# Altium integrated library Xilinx Virtex-E.IntLib: 288 symbols (part 38 of 73)
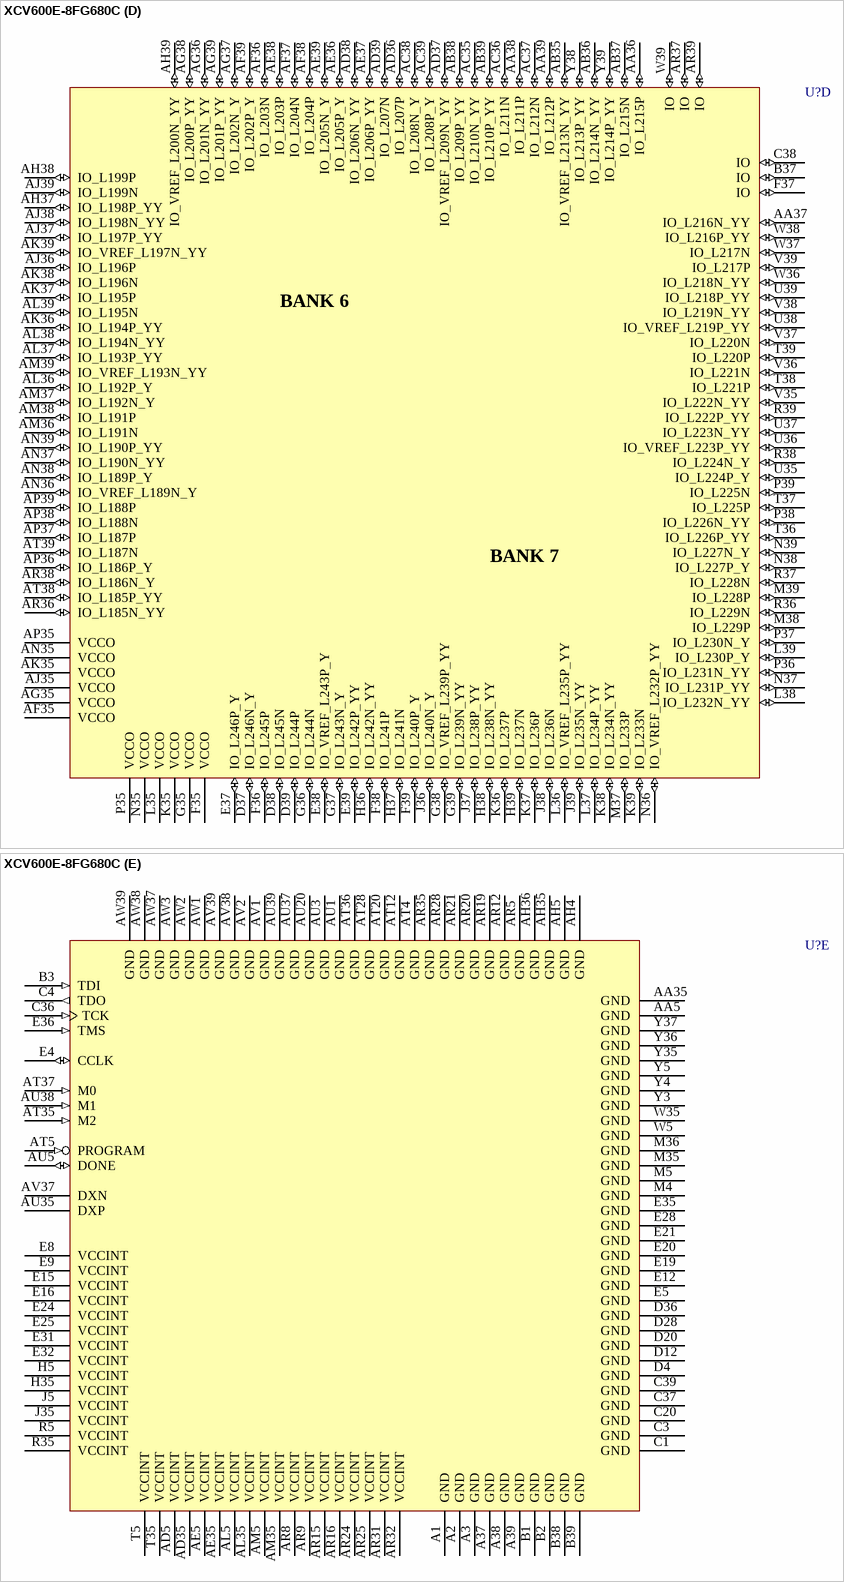
[diagram p427: symbol XCV600E-8FG680C]

## XCV600E-8FG680C
designator U?
Virtex-E 1.8V FPGA, 680-Ball FBGA, Commercial Grade; PackageDocument: ver1.1, Apr-2001; Note: Solder pads are defined by the copper, i.e. non-soldermask defined (NSMD); Published: 19-Sep-2001; LatestRevisionDate: 17-Jul-2002; LatestRevisionNote: Re-released for DXP Platform.; DatasheetDocument: Mar-2003; PackageReference: FG680; Publisher: Altium Limited
footprint FG680 (680-Ball Fine Pitch Ball Grid Array (FG680))
3D model XCV600E-FG680 (680-Ball Fine Pitch Ball Grid Array (FG680))
signal-integrity model XCV600E_FG680 (Virtex-E)
part A pins: A4 IO_L59P_Y (io), A5 IO_L57P_YY (io), A6 IO_L55P_Y (io), A7 IO_L53P_YY (io), A8 IO_L52N_YY (io), A9 IO_L50N_Y (io), A10 IO_L48N_YY (io), A11 IO_L46N_Y (io), A12 IO_L43P_Y (io), A13 IO_L41P_YY (io), A14 IO_L40N_YY (io), A15 IO_L38N_Y (io), A16 IO_L35P_Y (io), A17 IO_L33P_YY (io), A18 IO_L31P_Y (io), A19 IO_LVDS_DLL_L29P (io), A20 GCK3 (in), A21 IO_L27P_YY (io), A22 IO_L25P_Y (io), A23 IO_L23P_YY (io), A24 IO_L22N_YY (io), A25 IO_L21N_Y (io), A26 IO_L19N_YY (io), A27 IO_L16N_Y (io), A28 IO_L14P_YY (io), A29 IO_L13N_Y (io), A30 IO_L12N_Y (io), A31 IO_L10N_YY (io), A32 IO_L9N_Y (io), A33 IO_VREF_L7N_YY (io), A34 IO_L4P (io), A35 IO_L2P_YY (io), A36 IO_L0P_Y (io), B4 IO_WRITE_L60N_YY (io), B5 IO_L58P_Y (io), B6 IO_VREF_L56P_YY (io), B7 IO_L54P_Y (io), B8 IO_VREF_L52P_YY (io), B9 IO_L51N_Y (io), B10 IO_L49N_YY (io), B11 IO_L47N_Y (io), B12 IO_L45N_YY (io), B13 IO_L42P_Y (io), B14 IO_L40P_YY (io), B15 IO_L39N_Y (io), B16 IO_L37N_YY (io), B17 IO_L34P_Y (io), B18 IO_VREF_L32P_YY (io), B19 IO_L30P_Y (io), B20 IO_L28P_Y (io), B21 IO_L26P_YY (io), B22 IO_L24P_Y (io), B23 IO_L22P_YY (io), B24 IO_L24N_Y (io), B25 IO_L20N_Y (io), B26 IO_L17P_Y (io), B27 IO_L15P_Y (io), B28 IO_VREF_L14N_YY (io), B29 IO_L13P_Y (io), B30 IO_VREF_L11N_YY (io), B31 IO_L8P_Y (io), B32 IO_L8N_Y (io), B33 IO_L5P_Y (io), B34 IO_L3P_YY (io), B35 IO_L1P_Y (io), B36 IO (io), C5 IO (io), C6 IO_L58N_Y (io), C7 IO_L56N_YY (io), C8 IO_L54N_Y (io), C9 IO_L51P_Y (io), C10 IO_L49P_YY (io), C11 IO_L47P_Y (io), C12 IO_L46P_Y (io), C13 IO_L44P_YY (io), C14 IO_L43N_Y (io), C15 IO_L41N_YY (io), C16 IO_L38P_Y (io), C17 IO_L36N_YY (io), C18 IO_L33N_YY (io), C19 IO_L31N_Y (io), C21 IO_L30N_Y (io), C22 IO_LVDS_DLL_L29N (io), C23 IO_VREF_L27N_YY (io), C24 IO_VREF_L23N_YY (io), C25 IO_L20P_Y (io), C26 IO_L18P_YY (io), C27 IO_L17N_YY (io), C28 IO_L15N_YY (io), C29 IO_L12P_Y (io), C30 IO_L10P_YY (io), C31 IO_L7P_YY (io), C32 IO_L6N_YY (io), C33 IO_L4N (io), C34 IO_L2N_YY (io), C35 IO_L0N_Y (io), D5 IO_CS_L60P_YY (io), D6 IO_L59N_Y (io), D7 IO_L57N_YY (io), D8 IO_L55N_Y (io), D9 IO_L53N_YY (io), D10 IO_L50P_Y (io), D11 IO_VREF_L48P_YY (io), D13 IO_VREF_L45P_YY (io), D14 IO_L44N_YY (io), D15 IO_L42N_Y (io), D16 IO_L39P_Y (io), D17 IO_VREF_L36P_YY (io), D18 IO_L34N_Y (io), D19 IO_L32N_YY (io), D21 GCK2 (in), D22 IO (io), D23 IO_L26N_YY (io), D24 IO_L21P_Y (io), D25 IO_L19P_YY (io), D26 IO_L18N_YY (io), D27 IO_L16N_Y (io), D29 IO_L11P_YY (io), D30 IO_L9P_Y (io), D31 IO_L6P_YY (io), D32 IO_L5N_Y (io), D33 IO_VREF_L3N_YY (io), D34 IO_L1N_Y (io), D35 IO (io), E6 VCCO (power), E7 VCCO (power), E10 VCCO (power), E11 VCCO (power), E13 VCCO (power), E14 VCCO (power), E17 IO_L37P_YY (io), E18 IO_L35N_Y (io), E22 IO_L28N_Y (io), E23 IO_L25N_Y (io), E26 VCCO (power), E27 VCCO (power), E29 VCCO (power), E30 VCCO (power), E33 VCCO (power), E34 VCCO (power)
part B pins: AA1 IO_L96N (io), AA2 IO_L97N (io), AA3 IO_L90P_YY (io), AA4 IO_L91P (io), AB1 IO_L98N_YY (io), AB2 IO_L92P_YY (io), AB3 IO (io), AB4 IO_L93P (io), AB5 IO_L94P_YY (io), AC1 IO_VREF_L99N_YY (io), AC2 IO_L95P_YY (io), AC3 IO_L96P (io), AC4 IO_L97P (io), AC5 IO_L98P_YY (io), AD1 IO_L100P_Y (io), AD2 IO_L101P (io), AD3 IO_D4_L99P_YY (io), AD4 IO_L100N_Y (io), AE1 IO_L102P_YY (io), AE2 IO_L103P_Y (io), AE3 IO_L101N (io), AE4 IO_L102N_YY (io), AF1 IO_L104N (io), AF2 IO_L105N (io), AF3 IO_L103N_Y (io), AF4 IO_L104P (io), AF5 VCCO (power), AG1 IO_L106N_Y (io), AG2 IO_D5_L107N_YY (io), AG3 IO_L105P (io), AG4 IO_L106P_Y (io), AG5 VCCO (power), AH1 IO_D6_L108P_YY (io), AH2 IO_L109P (io), AH3 IO_L107P_YY (io), AJ1 IO_L110P_YY (io), AJ2 IO_VREF_L108N_YY (io), AJ3 IO_L109N (io), AJ4 IO_L110N_YY (io), AJ5 VCCO (power), AK1 IO_L111P_YY (io), AK2 IO_L112P (io), AK3 IO_VREF_L111N_YY (io), AK4 IO_L112N (io), AK5 VCCO (power), AL1 IO_L113P (io), AL2 IO_L113N (io), AL3 IO_L114N_YY (io), AL4 IO_VREF_L115N_YY (io), AM1 IO_L114P_YY (io), AM2 IO_L115P_YY (io), AM3 IO_L116P_Y (io), AM4 IO_L117P (io), AN1 IO_L116N_Y (io), AN2 IO_L118P_YY (io), AN3 IO_L119P_Y (io), AN4 IO_L120P (io), AN5 VCCO (power), AP1 IO_L117N (io), AP2 IO_L118N_YY (io), AP3 IO (io), AP4 IO_L121N (io), AP5 VCCO (power), AR1 IO_VREF_L119N_Y (io), AR2 IO_L121P (io), AR3 IO_L122N_Y (io), AR4 IO_D7_L123P_YY (io), AT1 IO_L120N (io), AT2 IO_L122P_Y (io), AT3 IO (io), AU2 IO_INIT_L123N_YY (io), C2 IO_DIN_D0_L61N_YY (io), D1 IO (io), D2 IO_L63P (io), D3 IO_L62P_Y (io), E1 IO_L65N_Y (io), E2 IO_L64N (io), E3 IO_DOUT_BUSY_L61P_YY (io), F1 IO_L67N (io), F2 IO_L66N_YY (io), F3 IO_L62N_Y (io), F4 IO (io), F5 VCCO (power), G1 IO_VREF_L69P_YY (io), G2 IO_L68N_Y (io), G3 IO_L64P (io), G4 IO_L63N (io), G5 VCCO (power), H1 IO_L71P (io), H2 IO_L70P_YY (io), H3 IO_L66P_YY (io), H4 IO_VREF_L65P_Y (io), J1 IO_VREF_L73P_YY (io), J2 IO_L72P (io), J3 IO_L68P_Y (io), J4 IO_L67P (io), K1 IO_L75P (io), K2 IO_L74P_YY (io), K3 IO_L70N_YY (io), K4 IO_L69N_YY (io), K5 VCCO (power), L1 IO_L77N_YY (io), L2 IO_VREF_L76P_YY (io), L3 IO_L72N (io), L4 IO_L71N (io), L5 VCCO (power), M1 IO_L79N (io), M2 IO_L78N_Y (io), M3 IO_L73N_YY (io), N1 IO_L81P_Y (io), N2 IO_L80N (io), N3 IO_L75N (io), N4 IO_L74N_YY (io), N5 VCCO (power), P1 IO_L83P (io), P2 IO_L82P_YY (io), P3 IO_D2_L77P_YY (io), P4 IO_D1_L76N_YY (io), P5 VCCO (power), R1 IO_D3_L85N_YY (io), R2 IO_L84P_Y (io), R3 IO_L79P (io), R4 IO_L78P_Y (io), T1 IO_L87N (io), T2 IO_L86N_YY (io), T3 IO_L81N_Y (io), T4 IO_L80P (io), U1 IO_L89N_YY (io), U2 IO_L88N (io), U3 IO_L84N_Y (io), U4 IO_L83N (io), U5 IO_L82N_YY (io), V1 IO_L91N (io), V2 IO_L90N_YY (io), V3 IO_L87P (io), V4 IO_L86P_YY (io), V5 IO_VREF_L85P_YY (io), W1 IO_L93N (io), W2 IO_L92N_YY (io), W3 IO_VREF_L89P_YY (io), W4 IO_L88P (io), Y1 IO_VREF_L95N_YY (io), Y2 IO_L94N_YY (io)
part C pins: AR6 VCCO (power), AR7 VCCO (power), AR10 VCCO (power), AR11 VCCO (power), AR13 VCCO (power), AR14 VCCO (power), AR17 IO_L146N_Y (io), AR18 IO_L149P_Y (io), AR22 IO_L156N_Y (io), AR23 IO_L160P_Y (io), AR26 VCCO (power), AR27 VCCO (power), AR29 VCCO (power), AR30 VCCO (power), AR33 VCCO (power), AR34 VCCO (power), AT6 IO_L125P_Y (io), AT7 IO_L127P_YY (io), AT8 IO_L129P_Y (io), AT9 IO_L131P_YY (io), AT10 IO_L133N_Y (io), AT11 IO_L135N_YY (io), AT13 IO_L138N_Y (io), AT14 IO_L140P_YY (io), AT15 IO_L142P_Y (io), AT16 IO_L144N_YY (io), AT17 IO_L147N_YY (io), AT18 IO_L150P_Y (io), AT19 IO_VREF_L152P_YY (io), AT21 IO_LVDS_DLL_L155P (io), AT22 IO_LVDS_DLL_L155N (io), AT23 IO_L159P_Y (io), AT24 IO_L163N_Y (io), AT25 IO_L165N_YY (io), AT26 IO_L168P_Y (io), AT27 IO_VREF_L170N_YY (io), AT29 IO_L174N_YY (io), AT30 IO_L176N_Y (io), AT31 IO_L178P_YY (io), AT32 IO_L181P_YY (io), AT33 IO_L183P_Y (io), AT34 IO (io), AU4 IO_L124P_YY (io), AU6 IO_L126P_Y (io), AU7 IO_VREF_L128P_YY (io), AU8 IO_L130P_Y (io), AU9 IO_L132N_YY (io), AU10 IO_L134N_Y (io), AU11 IO_L136N_YY (io), AU12 IO_L137N_Y (io), AU13 IO_L139N_YY (io), AU14 IO_L141P_Y (io), AU15 IO_L143P_YY (io), AU16 IO_L145N_Y (io), AU17 IO_VREF_L148P_YY (io), AU18 IO_L151P_YY (io), AU19 IO_L153P_Y (io), AU21 IO_L154P (io), AU22 GCK1 (in), AU23 IO_L158P_YY (io), AU24 IO_L162N_YY (io), AU25 IO_L164N_Y (io), AU26 IO_L167P_Y (io), AU27 IO_L169P_YY (io), AU28 IO_L171N_Y (io), AU29 IO_VREF_L173N_YY (io), AU30 IO_L175N_Y (io), AU31 IO_VREF_L177N_YY (io), AU32 IO_L180P_Y (io), AU33 IO_L182P_YY (io), AU34 IO_L184P_Y (io), AU36 IO_L184N_Y (io), AV3 IO (io), AV4 IO_L125N_Y (io), AV5 IO_L124N_YY (io), AV6 IO_L128N_YY (io), AV7 IO_L130N_Y (io), AV8 IO_VREF_L132P_YY (io), AV9 IO_L134P_Y (io), AV10 IO_VREF_L136P_YY (io), AV11 IO_L138P_Y (io), AV12 IO_L140N_YY (io), AV13 IO_L142N_Y (io), AV14 IO_L144P_YY (io), AV15 IO_L146P_Y (io), AV16 IO_L148N_YY (io), AV17 IO_L150N_Y (io), AV18 IO_L152N_YY (io), AV19 IO_L154N (io), AV20 IO_L156P_Y (io), AV21 IO_L158N_Y (io), AV22 IO_L160N_Y (io), AV23 IO_L157P_YY (io), AV24 IO_L161P_YY (io), AV25 IO_L164P_Y (io), AV26 IO_L166P_YY (io), AV27 IO_L167N_Y (io), AV28 IO_L169N_YY (io), AV29 IO_L172N_Y (io), AV30 IO_L172P_Y (io), AV31 IO_L174P_YY (io), AV32 IO_L179P_Y (io), AV33 IO_L177P_YY (io), AV34 IO_L179N_Y (io), AV35 IO_VREF_L181N_YY (io), AV36 IO_L183N_Y (io), AW4 IO_L126N_Y (io), AW5 IO_L127N_YY (io), AW6 IO_L129N_Y (io), AW7 IO_L131N_YY (io), AW8 IO_L133P_Y (io), AW9 IO_L135P_YY (io), AW10 IO_L137P_Y (io), AW11 IO_VREF_L139P_YY (io), AW12 IO_L141N_Y (io), AW13 IO_L143N_YY (io), AW14 IO_L145P_Y (io), AW15 IO_L147P_YY (io), AW16 IO_L149N_Y (io), AW17 IO_L151N_YY (io), AW18 IO_L153N_Y (io), AW19 GCK0 (in), AW20 IO (io), AW21 IO_VREF_L157N_YY (io), AW22 IO_L159N_Y (io), AW23 IO_VREF_L161N_YY (io), AW24 IO_L162P_YY (io), AW25 IO_L163P_Y (io), AW26 IO_L165P_YY (io), AW27 IO_L166N_YY (io), AW28 IO_L168N_Y (io), AW29 IO_L170P_YY (io), AW30 IO_L171P_Y (io), AW31 IO_L173P_YY (io), AW32 IO_L175P_Y (io), AW33 IO_L176P_Y (io), AW34 IO_L178N_YY (io), AW35 IO_L180N_Y (io), AW36 IO_L182N_YY (io)
part D pins: AA36 IO_L215P (io), AA37 IO_L216N_YY (io), AA38 IO_L211P (io), AA39 IO_L212P (io), AB35 IO_VREF_L213N_YY (io), AB36 IO_L214N_YY (io), AB37 IO_L215N (io), AB38 IO_L209P_YY (io), AB39 IO_L210P_YY (io), AC35 IO_L210N_YY (io), AC36 IO_L211N (io), AC37 IO_L212N (io), AC38 IO_L208N_Y (io), AC39 IO_L208P_Y (io), AD36 IO_L207P (io), AD37 IO_VREF_L209N_YY (io), AD38 IO_L206N_YY (io), AD39 IO_L207N (io), AE36 IO_L205P_Y (io), AE37 IO_L206P_YY (io), AE38 IO_L203P (io), AE39 IO_L205N_Y (io), AF35 VCCO (power), AF36 IO_L203N (io), AF37 IO_L204N (io), AF38 IO_L204P (io), AF39 IO_L202P_Y (io), AG35 VCCO (power), AG36 IO_L201N_YY (io), AG37 IO_L202N_Y (io), AG38 IO_L200P_YY (io), AG39 IO_L201P_YY (io), AH37 IO_L198P_YY (io), AH38 IO_L199P (io), AH39 IO_VREF_L200N_YY (io), AJ35 VCCO (power), AJ36 IO_L196P (io), AJ37 IO_L197P_YY (io), AJ38 IO_L198N_YY (io), AJ39 IO_L199N (io), AK35 VCCO (power), AK36 IO_L194P_YY (io), AK37 IO_L195P (io), AK38 IO_L196N (io), AK39 IO_VREF_L197N_YY (io), AL36 IO_L192P_Y (io), AL37 IO_L193P_YY (io), AL38 IO_L194N_YY (io), AL39 IO_L195N (io), AM36 IO_L191N (io), AM37 IO_L192N_Y (io), AM38 IO_L191P (io), AM39 IO_VREF_L193N_YY (io), AN35 VCCO (power), AN36 IO_VREF_L189N_Y (io), AN37 IO_L190N_YY (io), AN38 IO_L189P_Y (io), AN39 IO_L190P_YY (io), AP35 VCCO (power), AP36 IO_L186P_Y (io), AP37 IO_L187P (io), AP38 IO_L188N (io), AP39 IO_L188P (io), AR36 IO_L185N_YY (io), AR37 IO (io), AR38 IO_L186N_Y (io), AR39 IO (io), AT38 IO_L185P_YY (io), AT39 IO_L187N (io), B37 IO (io), C38 IO (io), D37 IO_L246N_Y (io), D38 IO_L245N (io), D39 IO_L244P (io), E37 IO_L246P_Y (io), E38 IO_VREF_L243P_Y (io), E39 IO_L242P_YY (io), F35 VCCO (power), F36 IO_L245P (io), F37 IO (io), F38 IO_L241P (io), F39 IO_L240P_Y (io), G35 VCCO (power), G36 IO_L244N (io), G37 IO_L243N_Y (io), G38 IO_VREF_L239P_YY (io), G39 IO_L239N_YY (io), H36 IO_L242N_YY (io), H37 IO_L241N (io), H38 IO_L238N_YY (io), H39 IO_L237N (io), J36 IO_L240N_Y (io), J37 IO_L238P_YY (io), J38 IO_L236N (io), J39 IO_L235N_YY (io), K35 VCCO (power), K36 IO_L237P (io), K37 IO_L236P (io), K38 IO_L234N_YY (io), K39 IO_L233N (io), L35 VCCO (power), L36 IO_VREF_L235P_YY (io), L37 IO_L234P_YY (io), L38 IO_L232N_YY (io), L39 IO_L230P_Y (io), M37 IO_L233P (io), M38 IO_L229P (io), M39 IO_L228P (io), N35 VCCO (power), N36 IO_VREF_L232P_YY (io), N37 IO_L231P_YY (io), N38 IO_L227P_Y (io), N39 IO_L227N_Y (io), P35 VCCO (power), P36 IO_L231N_YY (io), P37 IO_L230N_Y (io), P38 IO_L226N_YY (io), P39 IO_L225N (io), R36 IO_L229N (io), R37 IO_L228N (io), R38 IO_L224N_Y (io), R39 IO_L222P_YY (io), T36 IO_L226P_YY (io), T37 IO_L225P (io), T38 IO_L221P (io), T39 IO_L220P (io), U35 IO_L224P_Y (io), U36 IO_VREF_L223P_YY (io), U37 IO_L223N_YY (io), U38 IO_VREF_L219P_YY (io), U39 IO_L218P_YY (io), V35 IO_L222N_YY (io), V36 IO_L221N (io), V37 IO_L220N (io), V38 IO_L219N_YY (io), V39 IO_L217P (io), W36 IO_L218N_YY (io), W37 IO_L217N (io), W38 IO_L216P_YY (io), W39 IO (io), Y38 IO_L213P_YY (io), Y39 IO_L214P_YY (io)
part E pins: A1 GND (power), A2 GND (power), A3 GND (power), A37 GND (power), A38 GND (power), A39 GND (power), AA5 GND (power), AA35 GND (power), AD5 VCCINT (power), AD35 VCCINT (power), AE5 VCCINT (power), AE35 VCCINT (power), AH4 GND (power), AH5 GND (power), AH35 GND (power), AH36 GND (power), AL5 VCCINT (power), AL35 VCCINT (power), AM5 VCCINT (power), AM35 VCCINT (power), AR5 GND (power), AR8 VCCINT (power), AR9 VCCINT (power), AR12 GND (power), AR15 VCCINT (power), AR16 VCCINT (power), AR19 GND (power), AR20 GND (power), AR21 GND (power), AR24 VCCINT (power), AR25 VCCINT (power), AR28 GND (power), AR31 VCCINT (power), AR32 VCCINT (power), AR35 GND (power), AT4 GND (power), AT5 PROGRAM (in), AT12 GND (power), AT20 GND (power), AT28 GND (power), AT35 M2 (in), AT36 GND (power), AT37 M0 (in), AU1 GND (power), AU3 GND (power), AU5 DONE (io), AU20 GND (power), AU35 DXP, AU37 GND (power), AU38 M1 (in), AU39 GND (power), AV1 GND (power), AV2 GND (power), AV37 DXN, AV38 GND (power), AV39 GND (power), AW1 GND (power), AW2 GND (power), AW3 GND (power), AW37 GND (power), AW38 GND (power), AW39 GND (power), B1 GND (power), B2 GND (power), B3 TDI (in), B38 GND (power), B39 GND (power), C1 GND (power), C3 GND (power), C4 TDO (out), C20 GND (power), C36 TCK (in), C37 GND (power), C39 GND (power), D4 GND (power), D12 GND (power), D20 GND (power), D28 GND (power), D36 GND (power), E4 CCLK (io), E5 GND (power), E8 VCCINT (power), E9 VCCINT (power), E12 GND (power), E15 VCCINT (power), E16 VCCINT (power), E19 GND (power), E20 GND (power), E21 GND (power), E24 VCCINT (power), E25 VCCINT (power), E28 GND (power), E31 VCCINT (power), E32 VCCINT (power), E35 GND (power), E36 TMS (in), H5 VCCINT (power), H35 VCCINT (power), J5 VCCINT (power), J35 VCCINT (power), M4 GND (power), M5 GND (power), M35 GND (power), M36 GND (power), R5 VCCINT (power), R35 VCCINT (power), T5 VCCINT (power), T35 VCCINT (power), W5 GND (power), W35 GND (power), Y3 GND (power), Y4 GND (power), Y5 GND (power), Y35 GND (power), Y36 GND (power), Y37 GND (power)
part A text: BANK 0; BANK 1
part B text: BANK 2; BANK 3
part C text: BANK 4; BANK 5
part D text: BANK 6; BANK 7

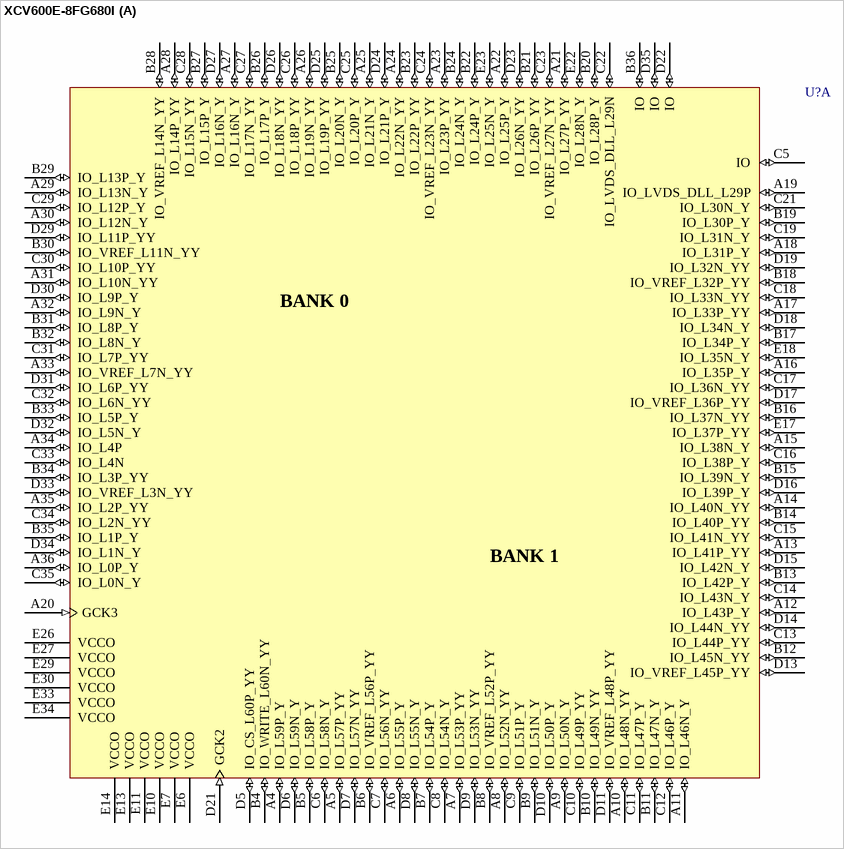
[diagram p265: symbol XCV600E-8FG680I]

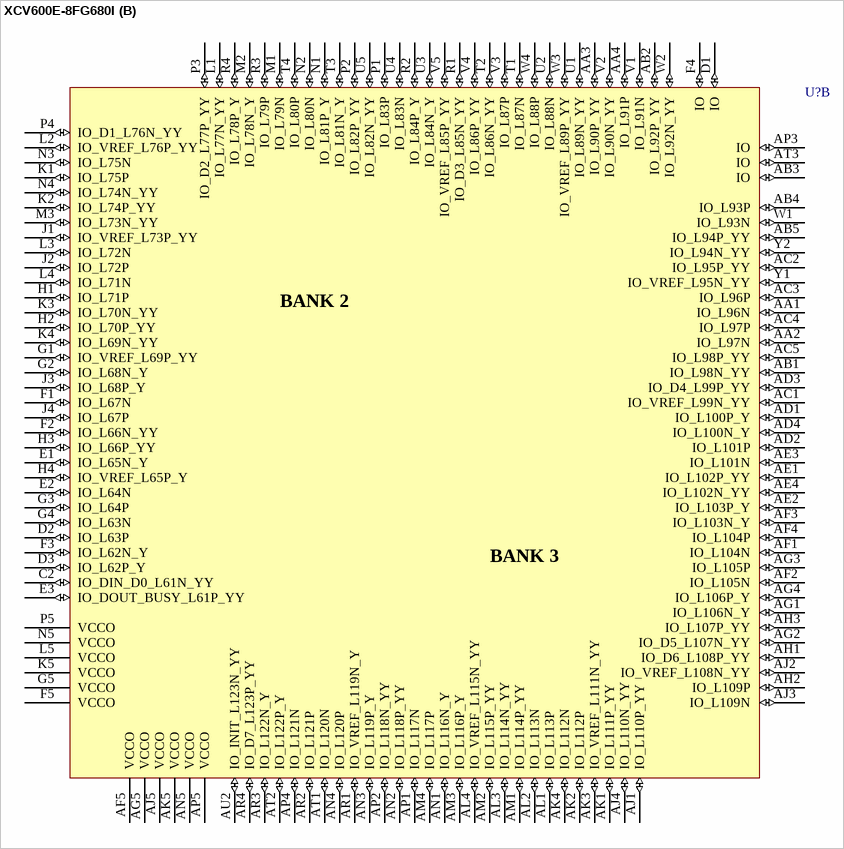
[diagram p266: symbol XCV600E-8FG680I]

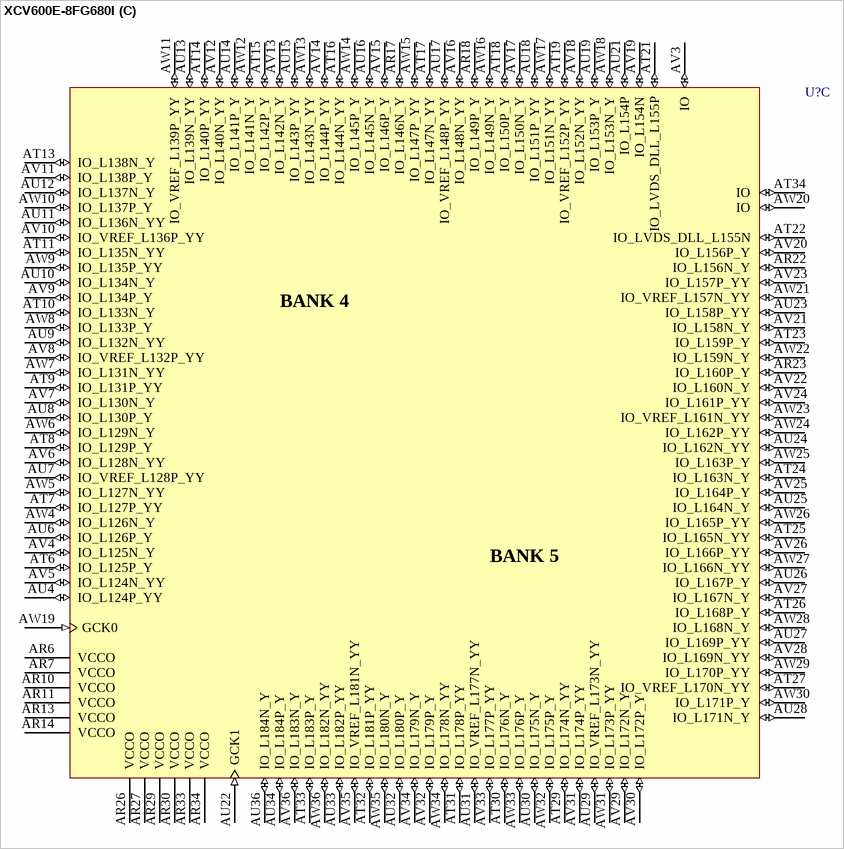
[diagram p267: symbol XCV600E-8FG680I]

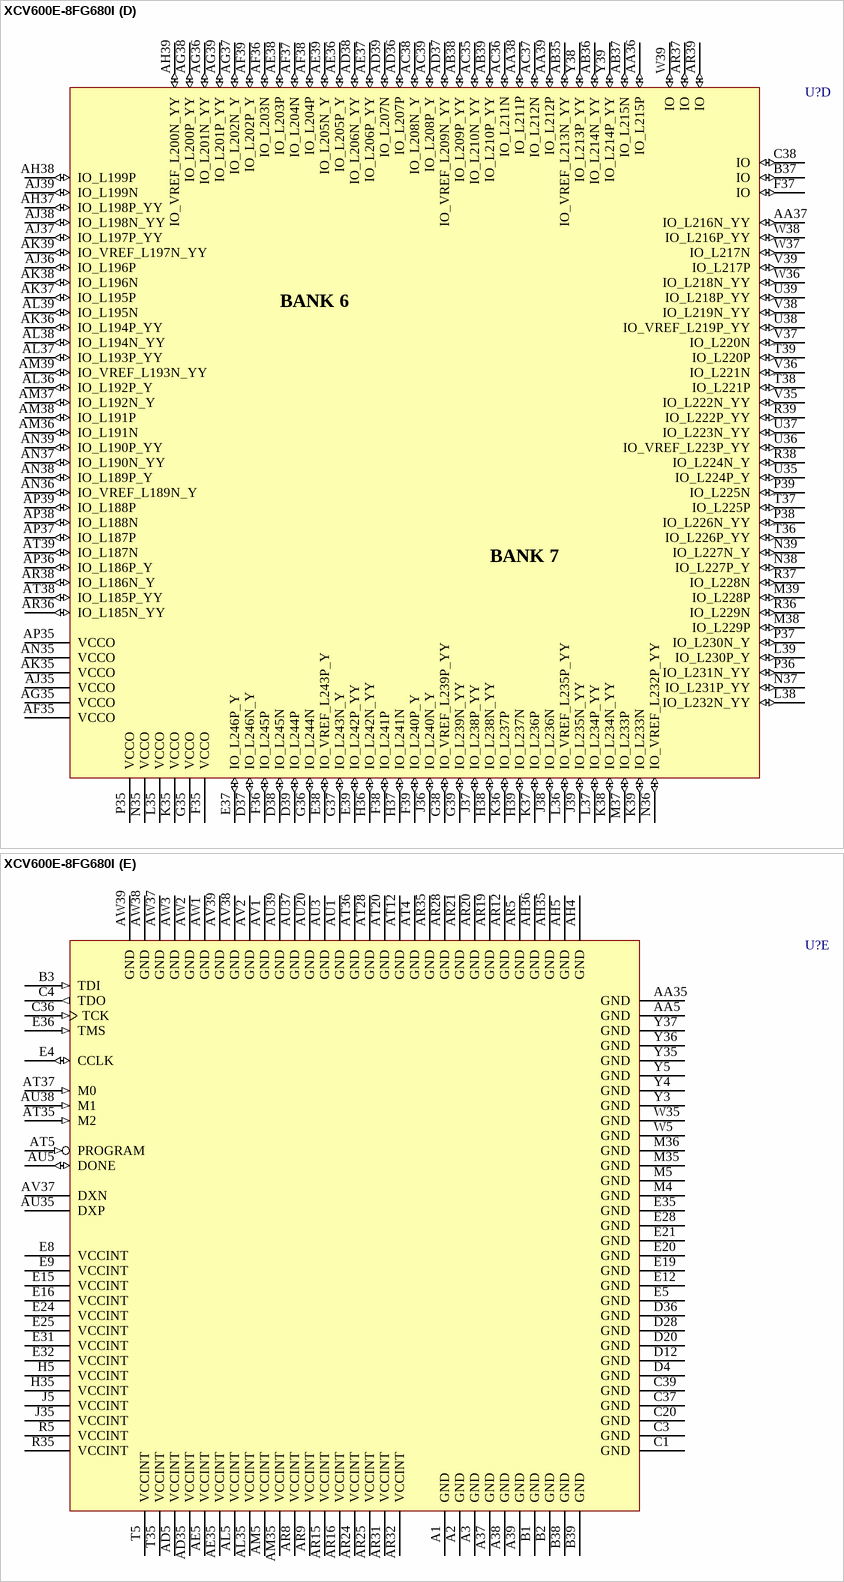
[diagram p268: symbol XCV600E-8FG680I]

## XCV600E-8FG680I
designator U?
Virtex-E 1.8V FPGA, 680-Ball FBGA, Industrial Grade; PackageDocument: ver1.1, Apr-2001; Note: Solder pads are defined by the copper, i.e. non-soldermask defined (NSMD); Published: 19-Sep-2001; LatestRevisionDate: 17-Jul-2002; LatestRevisionNote: Re-released for DXP Platform.; DatasheetDocument: Mar-2003; PackageReference: FG680; Publisher: Altium Limited
footprint FG680 (680-Ball Fine Pitch Ball Grid Array (FG680))
3D model XCV600E-FG680 (680-Ball Fine Pitch Ball Grid Array (FG680))
signal-integrity model XCV600E_FG680 (Virtex-E)
part A pins: A4 IO_L59P_Y (io), A5 IO_L57P_YY (io), A6 IO_L55P_Y (io), A7 IO_L53P_YY (io), A8 IO_L52N_YY (io), A9 IO_L50N_Y (io), A10 IO_L48N_YY (io), A11 IO_L46N_Y (io), A12 IO_L43P_Y (io), A13 IO_L41P_YY (io), A14 IO_L40N_YY (io), A15 IO_L38N_Y (io), A16 IO_L35P_Y (io), A17 IO_L33P_YY (io), A18 IO_L31P_Y (io), A19 IO_LVDS_DLL_L29P (io), A20 GCK3 (in), A21 IO_L27P_YY (io), A22 IO_L25P_Y (io), A23 IO_L23P_YY (io), A24 IO_L22N_YY (io), A25 IO_L21N_Y (io), A26 IO_L19N_YY (io), A27 IO_L16N_Y (io), A28 IO_L14P_YY (io), A29 IO_L13N_Y (io), A30 IO_L12N_Y (io), A31 IO_L10N_YY (io), A32 IO_L9N_Y (io), A33 IO_VREF_L7N_YY (io), A34 IO_L4P (io), A35 IO_L2P_YY (io), A36 IO_L0P_Y (io), B4 IO_WRITE_L60N_YY (io), B5 IO_L58P_Y (io), B6 IO_VREF_L56P_YY (io), B7 IO_L54P_Y (io), B8 IO_VREF_L52P_YY (io), B9 IO_L51N_Y (io), B10 IO_L49N_YY (io), B11 IO_L47N_Y (io), B12 IO_L45N_YY (io), B13 IO_L42P_Y (io), B14 IO_L40P_YY (io), B15 IO_L39N_Y (io), B16 IO_L37N_YY (io), B17 IO_L34P_Y (io), B18 IO_VREF_L32P_YY (io), B19 IO_L30P_Y (io), B20 IO_L28P_Y (io), B21 IO_L26P_YY (io), B22 IO_L24P_Y (io), B23 IO_L22P_YY (io), B24 IO_L24N_Y (io), B25 IO_L20N_Y (io), B26 IO_L17P_Y (io), B27 IO_L15P_Y (io), B28 IO_VREF_L14N_YY (io), B29 IO_L13P_Y (io), B30 IO_VREF_L11N_YY (io), B31 IO_L8P_Y (io), B32 IO_L8N_Y (io), B33 IO_L5P_Y (io), B34 IO_L3P_YY (io), B35 IO_L1P_Y (io), B36 IO (io), C5 IO (io), C6 IO_L58N_Y (io), C7 IO_L56N_YY (io), C8 IO_L54N_Y (io), C9 IO_L51P_Y (io), C10 IO_L49P_YY (io), C11 IO_L47P_Y (io), C12 IO_L46P_Y (io), C13 IO_L44P_YY (io), C14 IO_L43N_Y (io), C15 IO_L41N_YY (io), C16 IO_L38P_Y (io), C17 IO_L36N_YY (io), C18 IO_L33N_YY (io), C19 IO_L31N_Y (io), C21 IO_L30N_Y (io), C22 IO_LVDS_DLL_L29N (io), C23 IO_VREF_L27N_YY (io), C24 IO_VREF_L23N_YY (io), C25 IO_L20P_Y (io), C26 IO_L18P_YY (io), C27 IO_L17N_YY (io), C28 IO_L15N_YY (io), C29 IO_L12P_Y (io), C30 IO_L10P_YY (io), C31 IO_L7P_YY (io), C32 IO_L6N_YY (io), C33 IO_L4N (io), C34 IO_L2N_YY (io), C35 IO_L0N_Y (io), D5 IO_CS_L60P_YY (io), D6 IO_L59N_Y (io), D7 IO_L57N_YY (io), D8 IO_L55N_Y (io), D9 IO_L53N_YY (io), D10 IO_L50P_Y (io), D11 IO_VREF_L48P_YY (io), D13 IO_VREF_L45P_YY (io), D14 IO_L44N_YY (io), D15 IO_L42N_Y (io), D16 IO_L39P_Y (io), D17 IO_VREF_L36P_YY (io), D18 IO_L34N_Y (io), D19 IO_L32N_YY (io), D21 GCK2 (in), D22 IO (io), D23 IO_L26N_YY (io), D24 IO_L21P_Y (io), D25 IO_L19P_YY (io), D26 IO_L18N_YY (io), D27 IO_L16N_Y (io), D29 IO_L11P_YY (io), D30 IO_L9P_Y (io), D31 IO_L6P_YY (io), D32 IO_L5N_Y (io), D33 IO_VREF_L3N_YY (io), D34 IO_L1N_Y (io), D35 IO (io), E6 VCCO (power), E7 VCCO (power), E10 VCCO (power), E11 VCCO (power), E13 VCCO (power), E14 VCCO (power), E17 IO_L37P_YY (io), E18 IO_L35N_Y (io), E22 IO_L28N_Y (io), E23 IO_L25N_Y (io), E26 VCCO (power), E27 VCCO (power), E29 VCCO (power), E30 VCCO (power), E33 VCCO (power), E34 VCCO (power)
part B pins: AA1 IO_L96N (io), AA2 IO_L97N (io), AA3 IO_L90P_YY (io), AA4 IO_L91P (io), AB1 IO_L98N_YY (io), AB2 IO_L92P_YY (io), AB3 IO (io), AB4 IO_L93P (io), AB5 IO_L94P_YY (io), AC1 IO_VREF_L99N_YY (io), AC2 IO_L95P_YY (io), AC3 IO_L96P (io), AC4 IO_L97P (io), AC5 IO_L98P_YY (io), AD1 IO_L100P_Y (io), AD2 IO_L101P (io), AD3 IO_D4_L99P_YY (io), AD4 IO_L100N_Y (io), AE1 IO_L102P_YY (io), AE2 IO_L103P_Y (io), AE3 IO_L101N (io), AE4 IO_L102N_YY (io), AF1 IO_L104N (io), AF2 IO_L105N (io), AF3 IO_L103N_Y (io), AF4 IO_L104P (io), AF5 VCCO (power), AG1 IO_L106N_Y (io), AG2 IO_D5_L107N_YY (io), AG3 IO_L105P (io), AG4 IO_L106P_Y (io), AG5 VCCO (power), AH1 IO_D6_L108P_YY (io), AH2 IO_L109P (io), AH3 IO_L107P_YY (io), AJ1 IO_L110P_YY (io), AJ2 IO_VREF_L108N_YY (io), AJ3 IO_L109N (io), AJ4 IO_L110N_YY (io), AJ5 VCCO (power), AK1 IO_L111P_YY (io), AK2 IO_L112P (io), AK3 IO_VREF_L111N_YY (io), AK4 IO_L112N (io), AK5 VCCO (power), AL1 IO_L113P (io), AL2 IO_L113N (io), AL3 IO_L114N_YY (io), AL4 IO_VREF_L115N_YY (io), AM1 IO_L114P_YY (io), AM2 IO_L115P_YY (io), AM3 IO_L116P_Y (io), AM4 IO_L117P (io), AN1 IO_L116N_Y (io), AN2 IO_L118P_YY (io), AN3 IO_L119P_Y (io), AN4 IO_L120P (io), AN5 VCCO (power), AP1 IO_L117N (io), AP2 IO_L118N_YY (io), AP3 IO (io), AP4 IO_L121N (io), AP5 VCCO (power), AR1 IO_VREF_L119N_Y (io), AR2 IO_L121P (io), AR3 IO_L122N_Y (io), AR4 IO_D7_L123P_YY (io), AT1 IO_L120N (io), AT2 IO_L122P_Y (io), AT3 IO (io), AU2 IO_INIT_L123N_YY (io), C2 IO_DIN_D0_L61N_YY (io), D1 IO (io), D2 IO_L63P (io), D3 IO_L62P_Y (io), E1 IO_L65N_Y (io), E2 IO_L64N (io), E3 IO_DOUT_BUSY_L61P_YY (io), F1 IO_L67N (io), F2 IO_L66N_YY (io), F3 IO_L62N_Y (io), F4 IO (io), F5 VCCO (power), G1 IO_VREF_L69P_YY (io), G2 IO_L68N_Y (io), G3 IO_L64P (io), G4 IO_L63N (io), G5 VCCO (power), H1 IO_L71P (io), H2 IO_L70P_YY (io), H3 IO_L66P_YY (io), H4 IO_VREF_L65P_Y (io), J1 IO_VREF_L73P_YY (io), J2 IO_L72P (io), J3 IO_L68P_Y (io), J4 IO_L67P (io), K1 IO_L75P (io), K2 IO_L74P_YY (io), K3 IO_L70N_YY (io), K4 IO_L69N_YY (io), K5 VCCO (power), L1 IO_L77N_YY (io), L2 IO_VREF_L76P_YY (io), L3 IO_L72N (io), L4 IO_L71N (io), L5 VCCO (power), M1 IO_L79N (io), M2 IO_L78N_Y (io), M3 IO_L73N_YY (io), N1 IO_L81P_Y (io), N2 IO_L80N (io), N3 IO_L75N (io), N4 IO_L74N_YY (io), N5 VCCO (power), P1 IO_L83P (io), P2 IO_L82P_YY (io), P3 IO_D2_L77P_YY (io), P4 IO_D1_L76N_YY (io), P5 VCCO (power), R1 IO_D3_L85N_YY (io), R2 IO_L84P_Y (io), R3 IO_L79P (io), R4 IO_L78P_Y (io), T1 IO_L87N (io), T2 IO_L86N_YY (io), T3 IO_L81N_Y (io), T4 IO_L80P (io), U1 IO_L89N_YY (io), U2 IO_L88N (io), U3 IO_L84N_Y (io), U4 IO_L83N (io), U5 IO_L82N_YY (io), V1 IO_L91N (io), V2 IO_L90N_YY (io), V3 IO_L87P (io), V4 IO_L86P_YY (io), V5 IO_VREF_L85P_YY (io), W1 IO_L93N (io), W2 IO_L92N_YY (io), W3 IO_VREF_L89P_YY (io), W4 IO_L88P (io), Y1 IO_VREF_L95N_YY (io), Y2 IO_L94N_YY (io)
part C pins: AR6 VCCO (power), AR7 VCCO (power), AR10 VCCO (power), AR11 VCCO (power), AR13 VCCO (power), AR14 VCCO (power), AR17 IO_L146N_Y (io), AR18 IO_L149P_Y (io), AR22 IO_L156N_Y (io), AR23 IO_L160P_Y (io), AR26 VCCO (power), AR27 VCCO (power), AR29 VCCO (power), AR30 VCCO (power), AR33 VCCO (power), AR34 VCCO (power), AT6 IO_L125P_Y (io), AT7 IO_L127P_YY (io), AT8 IO_L129P_Y (io), AT9 IO_L131P_YY (io), AT10 IO_L133N_Y (io), AT11 IO_L135N_YY (io), AT13 IO_L138N_Y (io), AT14 IO_L140P_YY (io), AT15 IO_L142P_Y (io), AT16 IO_L144N_YY (io), AT17 IO_L147N_YY (io), AT18 IO_L150P_Y (io), AT19 IO_VREF_L152P_YY (io), AT21 IO_LVDS_DLL_L155P (io), AT22 IO_LVDS_DLL_L155N (io), AT23 IO_L159P_Y (io), AT24 IO_L163N_Y (io), AT25 IO_L165N_YY (io), AT26 IO_L168P_Y (io), AT27 IO_VREF_L170N_YY (io), AT29 IO_L174N_YY (io), AT30 IO_L176N_Y (io), AT31 IO_L178P_YY (io), AT32 IO_L181P_YY (io), AT33 IO_L183P_Y (io), AT34 IO (io), AU4 IO_L124P_YY (io), AU6 IO_L126P_Y (io), AU7 IO_VREF_L128P_YY (io), AU8 IO_L130P_Y (io), AU9 IO_L132N_YY (io), AU10 IO_L134N_Y (io), AU11 IO_L136N_YY (io), AU12 IO_L137N_Y (io), AU13 IO_L139N_YY (io), AU14 IO_L141P_Y (io), AU15 IO_L143P_YY (io), AU16 IO_L145N_Y (io), AU17 IO_VREF_L148P_YY (io), AU18 IO_L151P_YY (io), AU19 IO_L153P_Y (io), AU21 IO_L154P (io), AU22 GCK1 (in), AU23 IO_L158P_YY (io), AU24 IO_L162N_YY (io), AU25 IO_L164N_Y (io), AU26 IO_L167P_Y (io), AU27 IO_L169P_YY (io), AU28 IO_L171N_Y (io), AU29 IO_VREF_L173N_YY (io), AU30 IO_L175N_Y (io), AU31 IO_VREF_L177N_YY (io), AU32 IO_L180P_Y (io), AU33 IO_L182P_YY (io), AU34 IO_L184P_Y (io), AU36 IO_L184N_Y (io), AV3 IO (io), AV4 IO_L125N_Y (io), AV5 IO_L124N_YY (io), AV6 IO_L128N_YY (io), AV7 IO_L130N_Y (io), AV8 IO_VREF_L132P_YY (io), AV9 IO_L134P_Y (io), AV10 IO_VREF_L136P_YY (io), AV11 IO_L138P_Y (io), AV12 IO_L140N_YY (io), AV13 IO_L142N_Y (io), AV14 IO_L144P_YY (io), AV15 IO_L146P_Y (io), AV16 IO_L148N_YY (io), AV17 IO_L150N_Y (io), AV18 IO_L152N_YY (io), AV19 IO_L154N (io), AV20 IO_L156P_Y (io), AV21 IO_L158N_Y (io), AV22 IO_L160N_Y (io), AV23 IO_L157P_YY (io), AV24 IO_L161P_YY (io), AV25 IO_L164P_Y (io), AV26 IO_L166P_YY (io), AV27 IO_L167N_Y (io), AV28 IO_L169N_YY (io), AV29 IO_L172N_Y (io), AV30 IO_L172P_Y (io), AV31 IO_L174P_YY (io), AV32 IO_L179P_Y (io), AV33 IO_L177P_YY (io), AV34 IO_L179N_Y (io), AV35 IO_VREF_L181N_YY (io), AV36 IO_L183N_Y (io), AW4 IO_L126N_Y (io), AW5 IO_L127N_YY (io), AW6 IO_L129N_Y (io), AW7 IO_L131N_YY (io), AW8 IO_L133P_Y (io), AW9 IO_L135P_YY (io), AW10 IO_L137P_Y (io), AW11 IO_VREF_L139P_YY (io), AW12 IO_L141N_Y (io), AW13 IO_L143N_YY (io), AW14 IO_L145P_Y (io), AW15 IO_L147P_YY (io), AW16 IO_L149N_Y (io), AW17 IO_L151N_YY (io), AW18 IO_L153N_Y (io), AW19 GCK0 (in), AW20 IO (io), AW21 IO_VREF_L157N_YY (io), AW22 IO_L159N_Y (io), AW23 IO_VREF_L161N_YY (io), AW24 IO_L162P_YY (io), AW25 IO_L163P_Y (io), AW26 IO_L165P_YY (io), AW27 IO_L166N_YY (io), AW28 IO_L168N_Y (io), AW29 IO_L170P_YY (io), AW30 IO_L171P_Y (io), AW31 IO_L173P_YY (io), AW32 IO_L175P_Y (io), AW33 IO_L176P_Y (io), AW34 IO_L178N_YY (io), AW35 IO_L180N_Y (io), AW36 IO_L182N_YY (io)
part D pins: AA36 IO_L215P (io), AA37 IO_L216N_YY (io), AA38 IO_L211P (io), AA39 IO_L212P (io), AB35 IO_VREF_L213N_YY (io), AB36 IO_L214N_YY (io), AB37 IO_L215N (io), AB38 IO_L209P_YY (io), AB39 IO_L210P_YY (io), AC35 IO_L210N_YY (io), AC36 IO_L211N (io), AC37 IO_L212N (io), AC38 IO_L208N_Y (io), AC39 IO_L208P_Y (io), AD36 IO_L207P (io), AD37 IO_VREF_L209N_YY (io), AD38 IO_L206N_YY (io), AD39 IO_L207N (io), AE36 IO_L205P_Y (io), AE37 IO_L206P_YY (io), AE38 IO_L203P (io), AE39 IO_L205N_Y (io), AF35 VCCO (power), AF36 IO_L203N (io), AF37 IO_L204N (io), AF38 IO_L204P (io), AF39 IO_L202P_Y (io), AG35 VCCO (power), AG36 IO_L201N_YY (io), AG37 IO_L202N_Y (io), AG38 IO_L200P_YY (io), AG39 IO_L201P_YY (io), AH37 IO_L198P_YY (io), AH38 IO_L199P (io), AH39 IO_VREF_L200N_YY (io), AJ35 VCCO (power), AJ36 IO_L196P (io), AJ37 IO_L197P_YY (io), AJ38 IO_L198N_YY (io), AJ39 IO_L199N (io), AK35 VCCO (power), AK36 IO_L194P_YY (io), AK37 IO_L195P (io), AK38 IO_L196N (io), AK39 IO_VREF_L197N_YY (io), AL36 IO_L192P_Y (io), AL37 IO_L193P_YY (io), AL38 IO_L194N_YY (io), AL39 IO_L195N (io), AM36 IO_L191N (io), AM37 IO_L192N_Y (io), AM38 IO_L191P (io), AM39 IO_VREF_L193N_YY (io), AN35 VCCO (power), AN36 IO_VREF_L189N_Y (io), AN37 IO_L190N_YY (io), AN38 IO_L189P_Y (io), AN39 IO_L190P_YY (io), AP35 VCCO (power), AP36 IO_L186P_Y (io), AP37 IO_L187P (io), AP38 IO_L188N (io), AP39 IO_L188P (io), AR36 IO_L185N_YY (io), AR37 IO (io), AR38 IO_L186N_Y (io), AR39 IO (io), AT38 IO_L185P_YY (io), AT39 IO_L187N (io), B37 IO (io), C38 IO (io), D37 IO_L246N_Y (io), D38 IO_L245N (io), D39 IO_L244P (io), E37 IO_L246P_Y (io), E38 IO_VREF_L243P_Y (io), E39 IO_L242P_YY (io), F35 VCCO (power), F36 IO_L245P (io), F37 IO (io), F38 IO_L241P (io), F39 IO_L240P_Y (io), G35 VCCO (power), G36 IO_L244N (io), G37 IO_L243N_Y (io), G38 IO_VREF_L239P_YY (io), G39 IO_L239N_YY (io), H36 IO_L242N_YY (io), H37 IO_L241N (io), H38 IO_L238N_YY (io), H39 IO_L237N (io), J36 IO_L240N_Y (io), J37 IO_L238P_YY (io), J38 IO_L236N (io), J39 IO_L235N_YY (io), K35 VCCO (power), K36 IO_L237P (io), K37 IO_L236P (io), K38 IO_L234N_YY (io), K39 IO_L233N (io), L35 VCCO (power), L36 IO_VREF_L235P_YY (io), L37 IO_L234P_YY (io), L38 IO_L232N_YY (io), L39 IO_L230P_Y (io), M37 IO_L233P (io), M38 IO_L229P (io), M39 IO_L228P (io), N35 VCCO (power), N36 IO_VREF_L232P_YY (io), N37 IO_L231P_YY (io), N38 IO_L227P_Y (io), N39 IO_L227N_Y (io), P35 VCCO (power), P36 IO_L231N_YY (io), P37 IO_L230N_Y (io), P38 IO_L226N_YY (io), P39 IO_L225N (io), R36 IO_L229N (io), R37 IO_L228N (io), R38 IO_L224N_Y (io), R39 IO_L222P_YY (io), T36 IO_L226P_YY (io), T37 IO_L225P (io), T38 IO_L221P (io), T39 IO_L220P (io), U35 IO_L224P_Y (io), U36 IO_VREF_L223P_YY (io), U37 IO_L223N_YY (io), U38 IO_VREF_L219P_YY (io), U39 IO_L218P_YY (io), V35 IO_L222N_YY (io), V36 IO_L221N (io), V37 IO_L220N (io), V38 IO_L219N_YY (io), V39 IO_L217P (io), W36 IO_L218N_YY (io), W37 IO_L217N (io), W38 IO_L216P_YY (io), W39 IO (io), Y38 IO_L213P_YY (io), Y39 IO_L214P_YY (io)
part E pins: A1 GND (power), A2 GND (power), A3 GND (power), A37 GND (power), A38 GND (power), A39 GND (power), AA5 GND (power), AA35 GND (power), AD5 VCCINT (power), AD35 VCCINT (power), AE5 VCCINT (power), AE35 VCCINT (power), AH4 GND (power), AH5 GND (power), AH35 GND (power), AH36 GND (power), AL5 VCCINT (power), AL35 VCCINT (power), AM5 VCCINT (power), AM35 VCCINT (power), AR5 GND (power), AR8 VCCINT (power), AR9 VCCINT (power), AR12 GND (power), AR15 VCCINT (power), AR16 VCCINT (power), AR19 GND (power), AR20 GND (power), AR21 GND (power), AR24 VCCINT (power), AR25 VCCINT (power), AR28 GND (power), AR31 VCCINT (power), AR32 VCCINT (power), AR35 GND (power), AT4 GND (power), AT5 PROGRAM (in), AT12 GND (power), AT20 GND (power), AT28 GND (power), AT35 M2 (in), AT36 GND (power), AT37 M0 (in), AU1 GND (power), AU3 GND (power), AU5 DONE (io), AU20 GND (power), AU35 DXP, AU37 GND (power), AU38 M1 (in), AU39 GND (power), AV1 GND (power), AV2 GND (power), AV37 DXN, AV38 GND (power), AV39 GND (power), AW1 GND (power), AW2 GND (power), AW3 GND (power), AW37 GND (power), AW38 GND (power), AW39 GND (power), B1 GND (power), B2 GND (power), B3 TDI (in), B38 GND (power), B39 GND (power), C1 GND (power), C3 GND (power), C4 TDO (out), C20 GND (power), C36 TCK (in), C37 GND (power), C39 GND (power), D4 GND (power), D12 GND (power), D20 GND (power), D28 GND (power), D36 GND (power), E4 CCLK (io), E5 GND (power), E8 VCCINT (power), E9 VCCINT (power), E12 GND (power), E15 VCCINT (power), E16 VCCINT (power), E19 GND (power), E20 GND (power), E21 GND (power), E24 VCCINT (power), E25 VCCINT (power), E28 GND (power), E31 VCCINT (power), E32 VCCINT (power), E35 GND (power), E36 TMS (in), H5 VCCINT (power), H35 VCCINT (power), J5 VCCINT (power), J35 VCCINT (power), M4 GND (power), M5 GND (power), M35 GND (power), M36 GND (power), R5 VCCINT (power), R35 VCCINT (power), T5 VCCINT (power), T35 VCCINT (power), W5 GND (power), W35 GND (power), Y3 GND (power), Y4 GND (power), Y5 GND (power), Y35 GND (power), Y36 GND (power), Y37 GND (power)
part A text: BANK 0; BANK 1
part B text: BANK 2; BANK 3
part C text: BANK 4; BANK 5
part D text: BANK 6; BANK 7

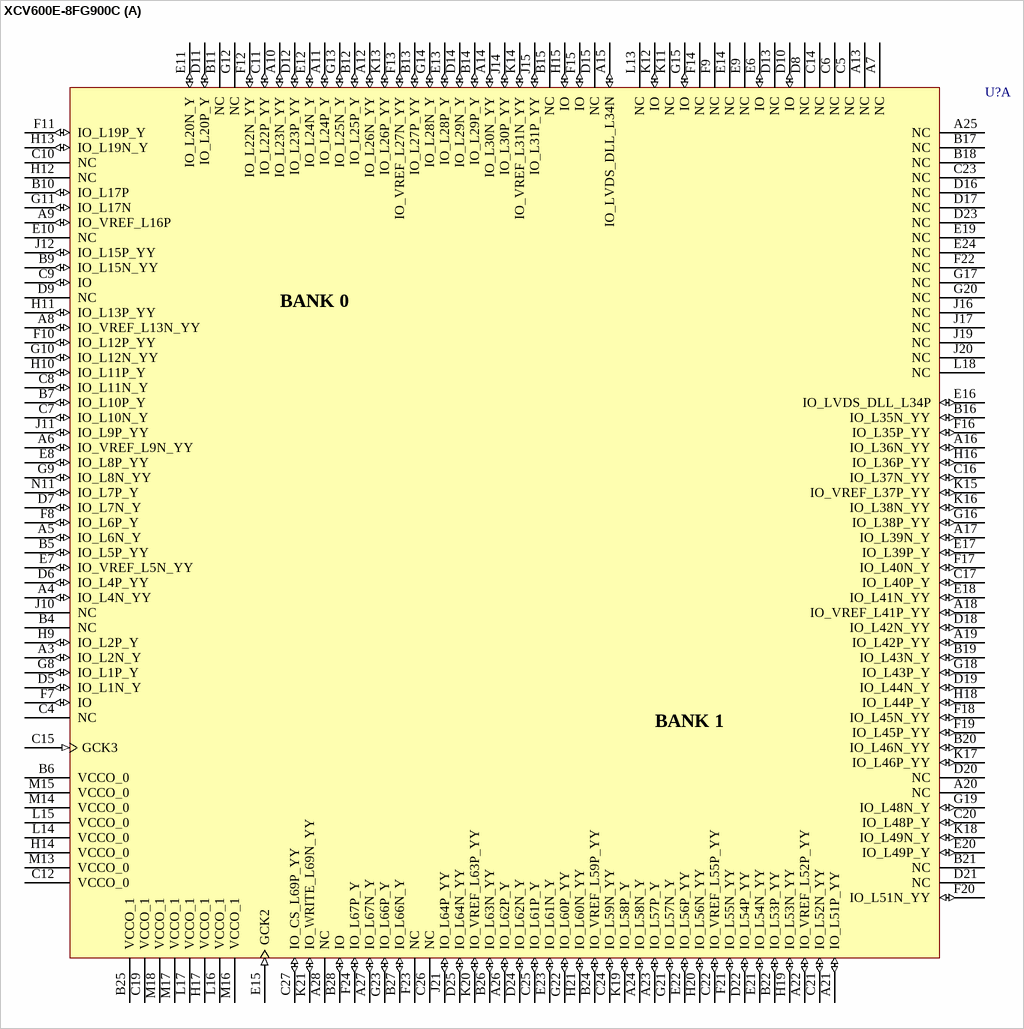
[diagram p269: symbol XCV600E-8FG900C]

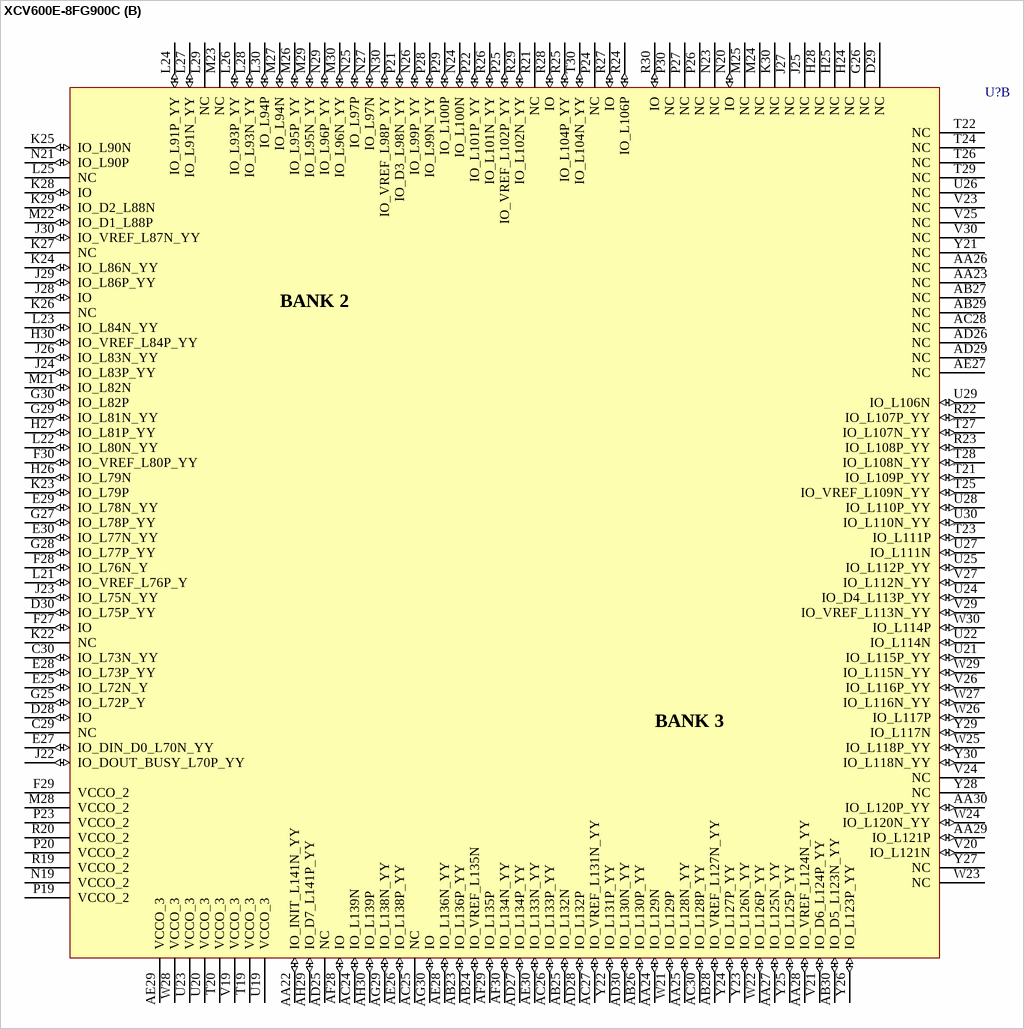
[diagram p270: symbol XCV600E-8FG900C]

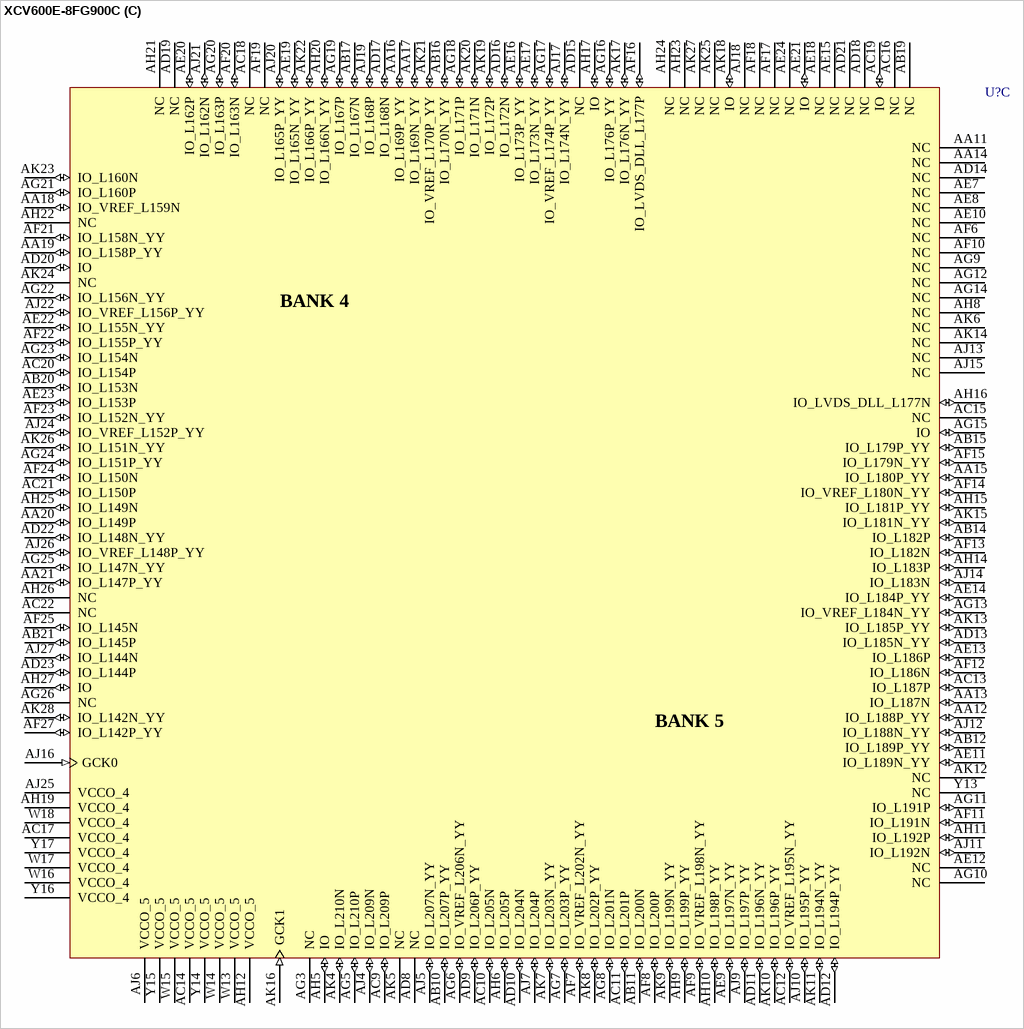
[diagram p271: symbol XCV600E-8FG900C]

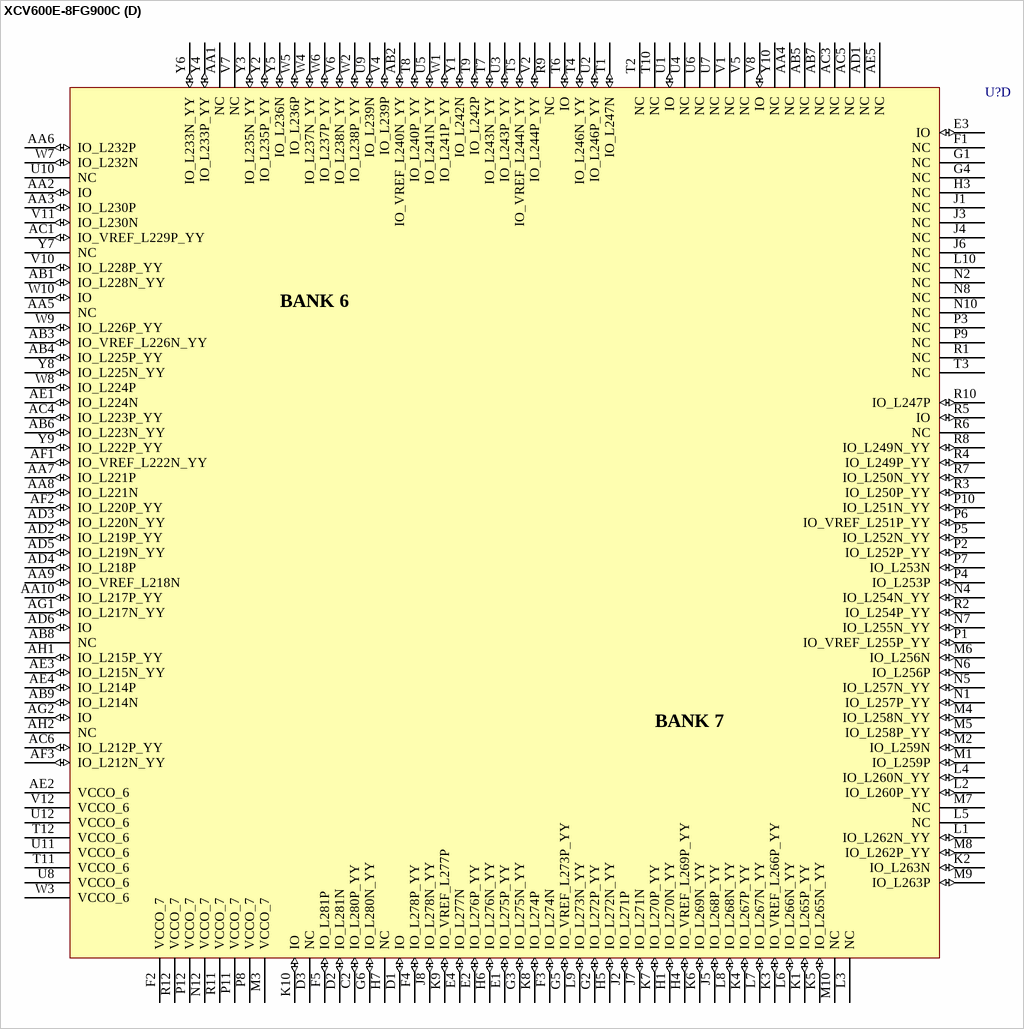
[diagram p272: symbol XCV600E-8FG900C]

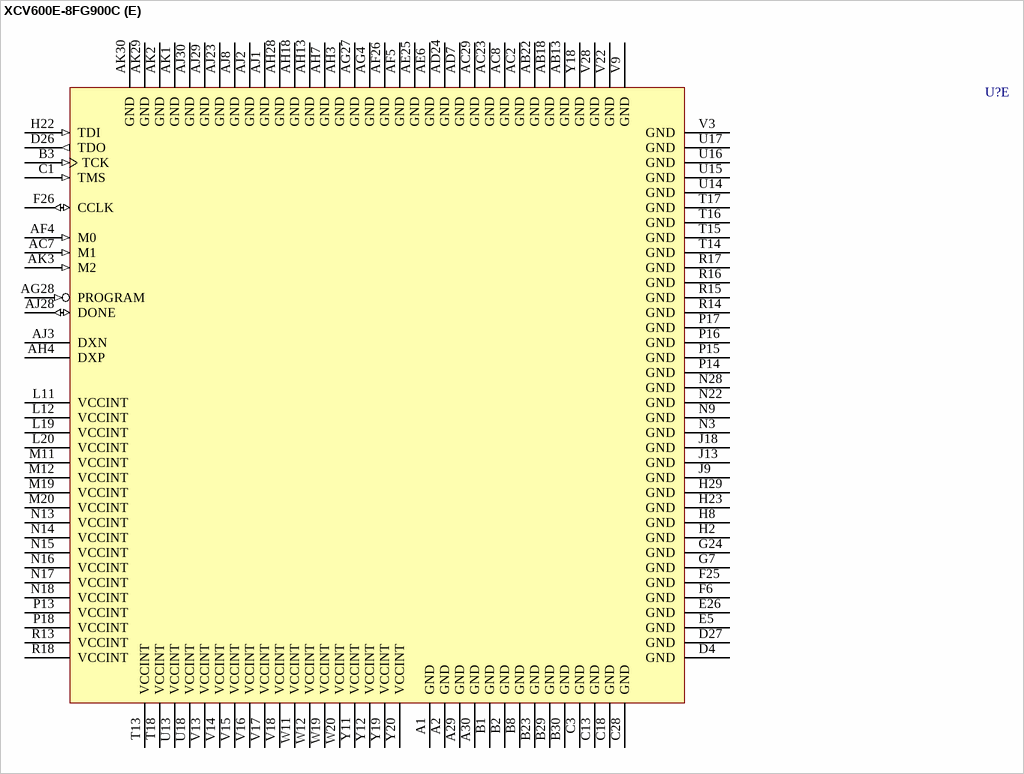
[diagram p273: symbol XCV600E-8FG900C]

## XCV600E-8FG900C
designator U?
Virtex-E 1.8V FPGA, 900-Ball FBGA, Commercial Grade; PackageDocument: ver1.1, Apr-2001; Note: Solder pads are defined by the copper, i.e. non-soldermask defined (NSMD); Published: 19-Sep-2001; LatestRevisionDate: 17-Jul-2002; LatestRevisionNote: Re-released for DXP Platform.; DatasheetDocument: Mar-2003; PackageReference: FG900; Publisher: Altium Limited; Code_IPC: PBGA 31X31 FE900
footprint FG900 (900-Ball Fine Pitch Ball Grid Array (FG900))
3D model XCV600E-FG900 (900-Ball Fine Pitch Ball Grid Array (FG900))
signal-integrity model XCV600E_FG900 (Virtex-E)
part A pins: A3 IO_L2N_Y (io), A4 IO_L4N_YY (io), A5 IO_L6N_Y (io), A6 IO_VREF_L9N_YY (io), A7 NC, A8 IO_VREF_L13N_YY (io), A9 IO_VREF_L16P (io), A10 IO_L23N_YY (io), A11 IO_L24P_Y (io), A12 IO_L26N_YY (io), A13 NC, A14 IO_L30N_YY (io), A15 IO_LVDS_DLL_L34N (io), A16 IO_L36N_YY (io), A17 IO_L39N_Y (io), A18 IO_VREF_L41P_YY (io), A19 IO_L42P_YY (io), A20 NC, A21 IO_L51P_YY (io), A22 IO_VREF_L52P_YY (io), A23 IO_L57P_Y (io), A24 IO_L58N_Y (io), A25 NC, A26 IO_L62P_Y (io), A27 IO_L67N_Y (io), A28 NC, B4 NC, B5 IO_L5P_YY (io), B6 VCCO_0 (power), B7 IO_L10P_Y (io), B9 IO_L15N_YY (io), B10 IO_L17P (io), B11 NC, B12 IO_L25P_Y (io), B13 IO_L27P_YY (io), B14 IO_L29P_Y (io), B15 NC, B16 IO_L35N_YY (io), B17 NC, B18 NC, B19 IO_L43N_Y (io), B20 IO_L46N_YY (io), B21 NC, B22 IO_L53P_YY (io), B24 IO_VREF_L59P_YY (io), B25 VCCO_1 (power), B26 IO_L63N_YY (io), B27 IO_L66N_Y (io), B28 IO (io), C4 NC, C5 NC, C6 NC, C7 IO_L10N_Y (io), C8 IO_L11N_Y (io), C9 IO (io), C10 NC, C11 IO_L22P_YY (io), C12 VCCO_0 (power), C14 NC, C15 GCK3 (in), C16 IO_L37N_YY (io), C17 IO_L40P_Y (io), C19 VCCO_1 (power), C20 IO_L48P_Y (io), C21 IO_L52N_YY (io), C22 IO_VREF_L55P_YY (io), C23 NC, C24 IO_L59N_YY (io), C25 IO_L61P_Y (io), C26 NC, C27 IO_CS_L69P_YY (io), D5 IO_L1N_Y (io), D6 IO_L4P_YY (io), D7 IO_L7N_Y (io), D8 NC, D9 NC, D10 IO (io), D11 IO_L20P_Y (io), D12 IO_L23P_YY (io), D13 NC, D14 IO_L29N_Y (io), D15 NC, D16 NC, D17 NC, D18 IO_L42N_YY (io), D19 IO_L44N_Y (io), D20 NC, D21 NC, D22 IO_L54P_YY (io), D23 NC, D24 IO_L62N_Y (io), D25 IO_L64N_YY (io), E6 IO (io), E7 IO_VREF_L5N_YY (io), E8 IO_L8P_YY (io), E9 NC, E10 NC, E11 IO_L20N_Y (io), E12 IO_L24N_Y (io), E13 IO_L28P_Y (io), E14 NC, E15 GCK2 (in), E16 IO_LVDS_DLL_L34P (io), E17 IO_L39P_Y (io), E18 IO_L41N_YY (io), E19 NC, E20 IO_L49P_Y (io), E21 IO_L54N_YY (io), E22 IO_L56P_YY (io), E23 IO_L61N_Y (io), E24 NC, F7 IO (io), F8 IO_L6P_Y (io), F9 NC, F10 IO_L12P_YY (io), F11 IO_L19P_Y (io), F12 IO_L22N_YY (io), F13 IO_VREF_L27N_YY (io), F14 NC, F15 IO (io), F16 IO_L35P_YY (io), F17 IO_L40N_Y (io), F18 IO_L45N_YY (io), F19 IO_L45P_YY (io), F20 IO_L51N_YY (io), F21 IO_L55N_YY (io), F22 NC, F23 NC, F24 IO_L67P_Y (io), G8 IO_L1P_Y (io), G9 IO_L8N_YY (io), G10 IO_L12N_YY (io), G11 IO_L17N (io), G12 NC, G13 IO_L25N_Y (io), G14 IO_L28N_Y (io), G15 IO (io), G16 IO_L38P_YY (io), G17 NC, G18 IO_L43P_Y (io), G19 IO_L48N_Y (io), G20 NC, G21 IO_L57N_Y (io), G22 IO_L60P_YY (io), G23 IO_L66P_Y (io), H9 IO_L2P_Y (io), H10 IO_L11P_Y (io), H11 IO_L13P_YY (io), H12 NC, H13 IO_L19N_Y (io), H14 VCCO_0 (power), H15 IO (io), H16 IO_L36P_YY (io), H17 VCCO_1 (power), H18 IO_L44P_Y (io), H19 IO_L53N_YY (io), H20 IO_L56N_YY (io), H21 IO_L60N_YY (io), J10 NC, J11 IO_L9P_YY (io), J12 IO_L15P_YY (io), J14 IO_L30P_YY (io), J15 IO_L31P_YY (io), J16 NC, J17 NC, J19 NC, J20 NC, J21 IO_L64P_YY (io), K11 NC, K12 IO (io), K13 IO_L26P_YY (io), K14 IO_VREF_L31N_YY (io), K15 IO_VREF_L37P_YY (io), K16 IO_L38N_YY (io), K17 IO_L46P_YY (io), K18 IO_L49N_Y (io), K19 IO_L58P_Y (io), K20 IO_VREF_L63P_YY (io), K21 IO_WRITE_L69N_YY (io), L13 NC, L14 VCCO_0 (power), L15 VCCO_0 (power), L16 VCCO_1 (power), L17 VCCO_1 (power), L18 NC, M13 VCCO_0 (power), M14 VCCO_0 (power), M15 VCCO_0 (power), M16 VCCO_1 (power), M17 VCCO_1 (power), M18 VCCO_1 (power), N11 IO_L7P_Y (io)
part B pins: AA22 IO_INIT_L141N_YY (io), AA23 NC, AA24 IO_L129N (io), AA25 IO_L128N_YY (io), AA26 NC, AA27 IO_L125N_YY (io), AA28 IO_VREF_L124N_YY (io), AA29 IO_L121P (io), AA30 IO_L120P_YY (io), AB23 IO_L136P_YY (io), AB24 IO_VREF_L135N (io), AB25 IO_L132N (io), AB26 IO_L130P_YY (io), AB27 NC, AB28 IO_VREF_L127N_YY (io), AB29 NC, AB30 IO_D5_L123N_YY (io), AC24 IO_L139N (io), AC25 NC, AC26 IO_L133P_YY (io), AC27 IO_VREF_L131N_YY (io), AC28 NC, AC30 IO_L128P_YY (io), AD25 NC, AD26 NC, AD27 IO_L134P_YY (io), AD28 IO_L132P (io), AD29 NC, AD30 IO_L130N_YY (io), AE26 IO_L138P_YY (io), AE27 NC, AE28 IO_L136N_YY (io), AE29 VCCO_3 (power), AE30 IO_L133N_YY (io), AF28 IO (io), AF29 IO_L135P (io), AF30 IO_L134N_YY (io), AG29 IO_L138N_YY (io), AG30 IO (io), AH29 IO_D7_L141P_YY (io), AH30 IO_L139P (io), C29 NC, C30 IO_L73N_YY (io), D28 IO (io), D29 NC, D30 IO_L75P_YY (io), E25 IO_L72N_Y (io), E27 IO_DIN_D0_L70N_YY (io), E28 IO_L73P_YY (io), E29 IO_L78N_YY (io), E30 IO_L77N_YY (io), F27 IO (io), F28 IO_L76N_Y (io), F29 VCCO_2 (power), F30 IO_VREF_L80P_YY (io), G25 IO_L72P_Y (io), G26 NC, G27 IO_L78P_YY (io), G28 IO_L77P_YY (io), G29 IO_L81N_YY (io), G30 IO_L82P (io), H24 NC, H25 NC, H26 IO_L79N (io), H27 IO_L81P_YY (io), H28 NC, H30 IO_VREF_L84P_YY (io), J22 IO_DOUT_BUSY_L70P_YY (io), J23 IO_L75N_YY (io), J24 IO_L83P_YY (io), J25 NC, J26 IO_L83N_YY (io), J27 NC, J28 IO (io), J29 IO_L86P_YY (io), J30 IO_VREF_L87N_YY (io), K22 NC, K23 IO_L79P (io), K24 IO_L86N_YY (io), K25 IO_L90N (io), K26 NC, K27 NC, K28 IO (io), K29 IO_D2_L88N (io), K30 NC, L21 IO_VREF_L76P_Y (io), L22 IO_L80N_YY (io), L23 IO_L84N_YY (io), L24 IO_L91P_YY (io), L25 NC, L26 IO_L93P_YY (io), L27 IO_L91N_YY (io), L28 IO_L93N_YY (io), L29 NC, L30 IO_L94P (io), M21 IO_L82N (io), M22 IO_D1_L88P (io), M23 NC, M24 NC, M25 NC, M26 IO_L95P_YY (io), M27 IO_L94N (io), M28 VCCO_2 (power), M29 IO_L95N_YY (io), M30 IO_L96N_YY (io), N19 VCCO_2 (power), N20 IO (io), N21 IO_L90P (io), N23 NC, N24 IO_L100N (io), N25 IO_L97P (io), N26 IO_L99P_YY (io), N27 IO_L97N (io), N29 IO_L96P_YY (io), N30 IO_VREF_L98P_YY (io), P19 VCCO_2 (power), P20 VCCO_2 (power), P21 IO_D3_L98N_YY (io), P22 IO_L101P_YY (io), P23 VCCO_2 (power), P24 NC, P25 IO_VREF_L102P_YY (io), P26 NC, P27 NC, P28 IO_L99N_YY (io), P29 IO_L100P (io), P30 NC, R19 VCCO_2 (power), R20 VCCO_2 (power), R21 NC, R22 IO_L107P_YY (io), R23 IO_L108P_YY (io), R24 IO_L106P (io), R25 IO_L104P_YY (io), R26 IO_L101N_YY (io), R27 IO (io), R28 IO (io), R29 IO_L102N_YY (io), R30 IO (io), T19 VCCO_3 (power), T20 VCCO_3 (power), T21 IO_L109P_YY (io), T22 NC, T23 IO_L111P (io), T24 NC, T25 IO_VREF_L109N_YY (io), T26 NC, T27 IO_L107N_YY (io), T28 IO_L108N_YY (io), T29 NC, T30 IO_L104N_YY (io), U19 VCCO_3 (power), U20 VCCO_3 (power), U21 IO_L115P_YY (io), U22 IO_L114N (io), U23 VCCO_3 (power), U24 IO_D4_L113P_YY (io), U25 IO_L112P_YY (io), U26 NC, U27 IO_L111N (io), U28 IO_L110P_YY (io), U29 IO_L106N (io), U30 IO_L110N_YY (io), V19 VCCO_3 (power), V20 IO_L121N (io), V21 IO_D6_L124P_YY (io), V23 NC, V24 NC, V25 NC, V26 IO_L116P_YY (io), V27 IO_L112N_YY (io), V29 IO_VREF_L113N_YY (io), V30 NC, W21 IO_L129P (io), W22 IO_L126P_YY (io), W23 NC, W24 IO_L120N_YY (io), W25 IO_L118P_YY (io), W26 IO_L117P (io), W27 IO_L116N_YY (io), W28 VCCO_3 (power), W29 IO_L115N_YY (io), W30 IO_L114P (io), Y21 NC, Y22 IO_L131P_YY (io), Y23 IO_L126N_YY (io), Y24 IO_L127P_YY (io), Y25 IO_L125P_YY (io), Y26 IO_L123P_YY (io), Y27 NC, Y28 NC, Y29 IO_L117N (io), Y30 IO_L118N_YY (io)
part C pins: AA11 NC, AA12 IO_L188P_YY (io), AA13 IO_L187N (io), AA14 NC, AA15 IO_L180P_YY (io), AA16 IO_L169P_YY (io), AA17 IO_L169N_YY (io), AA18 IO_VREF_L159N (io), AA19 IO_L158P_YY (io), AA20 IO_L149P (io), AA21 IO_L147P_YY (io), AB10 IO_L207P_YY (io), AB11 IO_L200N (io), AB12 IO_L189P_YY (io), AB14 IO_L182P (io), AB15 IO_L179P_YY (io), AB16 IO_L170N_YY (io), AB17 IO_L167N (io), AB19 NC, AB20 IO_L153N (io), AB21 IO_L145P (io), AC9 IO_L209P (io), AC10 IO_L205N (io), AC11 IO_L201P (io), AC12 IO_VREF_L195N_YY (io), AC13 IO_L187P (io), AC14 VCCO_5 (power), AC15 NC, AC16 NC, AC17 VCCO_4 (power), AC18 NC, AC19 IO (io), AC20 IO_L154P (io), AC21 IO_L150P (io), AC22 NC, AD8 NC, AD9 IO_L206P_YY (io), AD10 IO_L204N (io), AD11 IO_L196N_YY (io), AD12 IO_L194P_YY (io), AD13 IO_L185N_YY (io), AD14 NC, AD15 NC, AD16 IO_L172N (io), AD17 IO_L168N (io), AD18 NC, AD19 NC, AD20 IO (io), AD21 NC, AD22 IO_L148N_YY (io), AD23 IO_L144P (io), AE7 NC, AE8 NC, AE9 IO_L197N_YY (io), AE10 NC, AE11 IO_L189N_YY (io), AE12 NC, AE13 IO_L186P (io), AE14 IO_L184P_YY (io), AE15 NC, AE16 IO_L173P_YY (io), AE17 IO_L173N_YY (io), AE18 NC, AE19 IO_L165N_YY (io), AE20 IO_L162P (io), AE21 IO (io), AE22 IO_L155N_YY (io), AE23 IO_L153P (io), AE24 NC, AF6 NC, AF7 IO_VREF_L202N_YY (io), AF8 IO_L200P (io), AF9 IO_VREF_L198N_YY (io), AF10 NC, AF11 IO_L191N (io), AF12 IO_L186N (io), AF13 IO_L182N (io), AF14 IO_VREF_L180N_YY (io), AF15 IO_L179N_YY (io), AF16 IO_LVDS_DLL_L177P (io), AF17 NC, AF18 NC, AF19 NC, AF20 IO_L163N (io), AF21 IO_L158N_YY (io), AF22 IO_L155P_YY (io), AF23 IO_L152N_YY (io), AF24 IO_L150N (io), AF25 IO_L145N (io), AF27 IO_L142P_YY (io), AG3 NC, AG5 IO_L210P (io), AG6 IO_VREF_L206N_YY (io), AG7 IO_L203P_YY (io), AG8 IO_L201N (io), AG9 NC, AG10 NC, AG11 IO_L191P (io), AG12 NC, AG13 IO_VREF_L184N_YY (io), AG14 NC, AG15 IO (io), AG16 IO_L176P_YY (io), AG17 IO_VREF_L174P_YY (io), AG18 IO_L171P (io), AG19 IO_L167P (io), AG20 IO_L163P (io), AG21 IO_L160P (io), AG22 IO_L156N_YY (io), AG23 IO_L154N (io), AG24 IO_L151P_YY (io), AG25 IO_L147N_YY (io), AG26 NC, AH5 IO (io), AH6 IO_L205P (io), AH8 NC, AH9 IO_L199P_YY (io), AH10 IO_L198P_YY (io), AH11 IO_L192P (io), AH12 VCCO_5 (power), AH14 IO_L183P (io), AH15 IO_L181P_YY (io), AH16 IO_LVDS_DLL_L177N (io), AH17 IO (io), AH19 VCCO_4 (power), AH20 IO_L166N_YY (io), AH21 NC, AH22 NC, AH23 NC, AH24 NC, AH25 IO_L149N (io), AH26 NC, AH27 IO (io), AJ4 IO_L209N (io), AJ5 IO_L207N_YY (io), AJ6 VCCO_5 (power), AJ7 IO_L204P (io), AJ9 IO_L197P_YY (io), AJ10 IO_L195P_YY (io), AJ11 IO_L192N (io), AJ12 IO_L188N_YY (io), AJ13 NC, AJ14 IO_L183N (io), AJ15 NC, AJ16 GCK0 (in), AJ17 IO_L174N_YY (io), AJ18 NC, AJ19 IO_L168P (io), AJ20 IO_L165P_YY (io), AJ21 IO_L162N (io), AJ22 IO_VREF_L156P_YY (io), AJ24 IO_VREF_L152P_YY (io), AJ25 VCCO_4 (power), AJ26 IO_VREF_L148P_YY (io), AJ27 IO_L144N (io), AK4 IO_L210N (io), AK5 NC, AK6 NC, AK7 IO_L203N_YY (io), AK8 IO_L202P_YY (io), AK9 IO_L199N_YY (io), AK10 IO_L196P_YY (io), AK11 IO_L194N_YY (io), AK12 NC, AK13 IO_L185P_YY (io), AK14 NC, AK15 IO_L181N_YY (io), AK16 GCK1 (in), AK17 IO_L176N_YY (io), AK18 IO (io), AK19 IO_L172P (io), AK20 IO_L171N (io), AK21 IO_VREF_L170P_YY (io), AK22 IO_L166P_YY (io), AK23 IO_L160N (io), AK24 NC, AK25 NC, AK26 IO_L151N_YY (io), AK27 NC, AK28 IO_L142N_YY (io), W13 VCCO_5 (power), W14 VCCO_5 (power), W15 VCCO_5 (power), W16 VCCO_4 (power), W17 VCCO_4 (power), W18 VCCO_4 (power), Y13 NC, Y14 VCCO_5 (power), Y15 VCCO_5 (power), Y16 VCCO_4 (power), Y17 VCCO_4 (power)
part D pins: AA1 NC, AA2 IO (io), AA3 IO_L230P (io), AA4 NC, AA5 NC, AA6 IO_L232P (io), AA7 IO_L221P (io), AA8 IO_L221N (io), AA9 IO_VREF_L218N (io), AA10 IO_L217P_YY (io), AB1 IO_L228N_YY (io), AB2 IO_VREF_L240N_YY (io), AB3 IO_VREF_L226N_YY (io), AB4 IO_L225P_YY (io), AB5 NC, AB6 IO_L223N_YY (io), AB7 NC, AB8 NC, AB9 IO_L214N (io), AC1 IO_VREF_L229P_YY (io), AC3 NC, AC4 IO_L223P_YY (io), AC5 NC, AC6 IO_L212P_YY (io), AD1 NC, AD2 IO_L219P_YY (io), AD3 IO_L220N_YY (io), AD4 IO_L218P (io), AD5 IO_L219N_YY (io), AD6 IO (io), AE1 IO_L224N (io), AE2 VCCO_6 (power), AE3 IO_L215N_YY (io), AE4 IO_L214P (io), AE5 NC, AF1 IO_VREF_L222N_YY (io), AF2 IO_L220P_YY (io), AF3 IO_L212N_YY (io), AG1 IO_L217N_YY (io), AG2 IO (io), AH1 IO_L215P_YY (io), AH2 NC, C2 IO_L280P_YY (io), D1 IO (io), D2 IO_L281N (io), D3 NC, E1 IO_L275P_YY (io), E2 IO_L276P_YY (io), E3 IO (io), E4 IO_L277N (io), F1 NC, F2 VCCO_7 (power), F3 IO_L274N (io), F4 IO_L278P_YY (io), F5 IO_L281P (io), G1 NC, G2 IO_L272P_YY (io), G3 IO_L275N_YY (io), G4 NC, G5 IO_VREF_L273P_YY (io), G6 IO_L280N_YY (io), H1 IO_L270N_YY (io), H3 NC, H4 IO_VREF_L269P_YY (io), H5 IO_L272N_YY (io), H6 IO_L276N_YY (io), H7 NC, J1 NC, J2 IO_L271P (io), J3 NC, J4 NC, J5 IO_L268P_YY (io), J6 NC, J7 IO_L271N (io), J8 IO_L278N_YY (io), K1 IO_L265P_YY (io), K2 IO_L263N (io), K3 IO_VREF_L266P_YY (io), K4 IO_L267P_YY (io), K5 IO_L265N_YY (io), K6 IO_L269N_YY (io), K7 IO_L270P_YY (io), K8 IO_L274P (io), K9 IO_VREF_L277P (io), K10 IO (io), L1 IO_L262N_YY (io), L2 IO_L260P_YY (io), L3 NC, L4 IO_L260N_YY (io), L5 NC, L6 IO_L266N_YY (io), L7 IO_L267N_YY (io), L8 IO_L268N_YY (io), L9 IO_L273N_YY (io), L10 NC, M1 IO_L259P (io), M2 IO_L259N (io), M3 VCCO_7 (power), M4 IO_L258N_YY (io), M5 IO_L258P_YY (io), M6 IO_L256N (io), M7 NC, M8 IO_L262P_YY (io), M9 IO_L263P (io), M10 NC, N1 IO_L257P_YY (io), N2 NC, N4 IO_L254N_YY (io), N5 IO_L257N_YY (io), N6 IO_L256P (io), N7 IO_L255N_YY (io), N8 NC, N10 NC, N12 VCCO_7 (power), P1 IO_VREF_L255P_YY (io), P2 IO_L252P_YY (io), P3 NC, P4 IO_L253P (io), P5 IO_L252N_YY (io), P6 IO_VREF_L251P_YY (io), P7 IO_L253N (io), P8 VCCO_7 (power), P9 NC, P10 IO_L251N_YY (io), P11 VCCO_7 (power), P12 VCCO_7 (power), R1 NC, R2 IO_L254P_YY (io), R3 IO_L250P_YY (io), R4 IO_L249P_YY (io), R5 IO (io), R6 NC, R7 IO_L250N_YY (io), R8 IO_L249N_YY (io), R9 NC, R10 IO_L247P (io), R11 VCCO_7 (power), R12 VCCO_7 (power), T1 IO_L247N (io), T2 NC, T3 NC, T4 IO_L246N_YY (io), T5 IO_VREF_L244N_YY (io), T6 IO (io), T7 IO_L243N_YY (io), T8 IO_L240P_YY (io), T9 IO_L242P (io), T10 NC, T11 VCCO_6 (power), T12 VCCO_6 (power), U1 IO (io), U2 IO_L246P_YY (io), U3 IO_L243P_YY (io), U4 NC, U5 IO_L241N_YY (io), U6 NC, U7 NC, U8 VCCO_6 (power), U9 IO_L239N (io), U10 NC, U11 VCCO_6 (power), U12 VCCO_6 (power), V1 NC, V2 IO_L244P_YY (io), V4 IO_L239P (io), V5 NC, V6 IO_L238N_YY (io), V7 NC, V8 IO (io), V10 IO_L228P_YY (io), V11 IO_L230N (io), V12 VCCO_6 (power), W1 IO_L241P_YY (io), W2 IO_L238P_YY (io), W3 VCCO_6 (power), W4 IO_L237N_YY (io), W5 IO_L236P (io), W6 IO_L237P_YY (io), W7 IO_L232N (io), W8 IO_L224P (io), W9 IO_L226P_YY (io), W10 IO (io), Y1 IO_L242N (io), Y2 IO_L235P_YY (io), Y3 IO_L235N_YY (io), Y4 IO_L233P_YY (io), Y5 IO_L236N (io), Y6 IO_L233N_YY (io), Y7 NC, Y8 IO_L225N_YY (io), Y9 IO_L222P_YY (io), Y10 NC
part E pins: A1 GND (power), A2 GND (power), A29 GND (power), A30 GND (power), AB13 GND (power), AB18 GND (power), AB22 GND (power), AC2 GND (power), AC7 M1 (in), AC8 GND (power), AC23 GND (power), AC29 GND (power), AD7 GND (power), AD24 GND (power), AE6 GND (power), AE25 GND (power), AF4 M0 (in), AF5 GND (power), AF26 GND (power), AG4 GND (power), AG27 GND (power), AG28 PROGRAM (in), AH3 GND (power), AH4 DXP, AH7 GND (power), AH13 GND (power), AH18 GND (power), AH28 GND (power), AJ1 GND (power), AJ2 GND (power), AJ3 DXN, AJ8 GND (power), AJ23 GND (power), AJ28 DONE (io), AJ29 GND (power), AJ30 GND (power), AK1 GND (power), AK2 GND (power), AK3 M2 (in), AK29 GND (power), AK30 GND (power), B1 GND (power), B2 GND (power), B3 TCK (in), B8 GND (power), B23 GND (power), B29 GND (power), B30 GND (power), C1 TMS (in), C3 GND (power), C13 GND (power), C18 GND (power), C28 GND (power), D4 GND (power), D26 TDO (out), D27 GND (power), E5 GND (power), E26 GND (power), F6 GND (power), F25 GND (power), F26 CCLK (io), G7 GND (power), G24 GND (power), H2 GND (power), H8 GND (power), H22 TDI (in), H23 GND (power), H29 GND (power), J9 GND (power), J13 GND (power), J18 GND (power), L11 VCCINT (power), L12 VCCINT (power), L19 VCCINT (power), L20 VCCINT (power), M11 VCCINT (power), M12 VCCINT (power), M19 VCCINT (power), M20 VCCINT (power), N3 GND (power), N9 GND (power), N13 VCCINT (power), N14 VCCINT (power), N15 VCCINT (power), N16 VCCINT (power), N17 VCCINT (power), N18 VCCINT (power), N22 GND (power), N28 GND (power), P13 VCCINT (power), P14 GND (power), P15 GND (power), P16 GND (power), P17 GND (power), P18 VCCINT (power), R13 VCCINT (power), R14 GND (power), R15 GND (power), R16 GND (power), R17 GND (power), R18 VCCINT (power), T13 VCCINT (power), T14 GND (power), T15 GND (power), T16 GND (power), T17 GND (power), T18 VCCINT (power), U13 VCCINT (power), U14 GND (power), U15 GND (power), U16 GND (power), U17 GND (power), U18 VCCINT (power), V3 GND (power), V9 GND (power), V13 VCCINT (power), V14 VCCINT (power), V15 VCCINT (power), V16 VCCINT (power), V17 VCCINT (power), V18 VCCINT (power), V22 GND (power), V28 GND (power), W11 VCCINT (power), W12 VCCINT (power), W19 VCCINT (power), W20 VCCINT (power), Y11 VCCINT (power), Y12 VCCINT (power), Y18 GND (power), Y19 VCCINT (power), Y20 VCCINT (power)
part A text: BANK 0; BANK 1
part B text: BANK 2; BANK 3
part C text: BANK 4; BANK 5
part D text: BANK 6; BANK 7

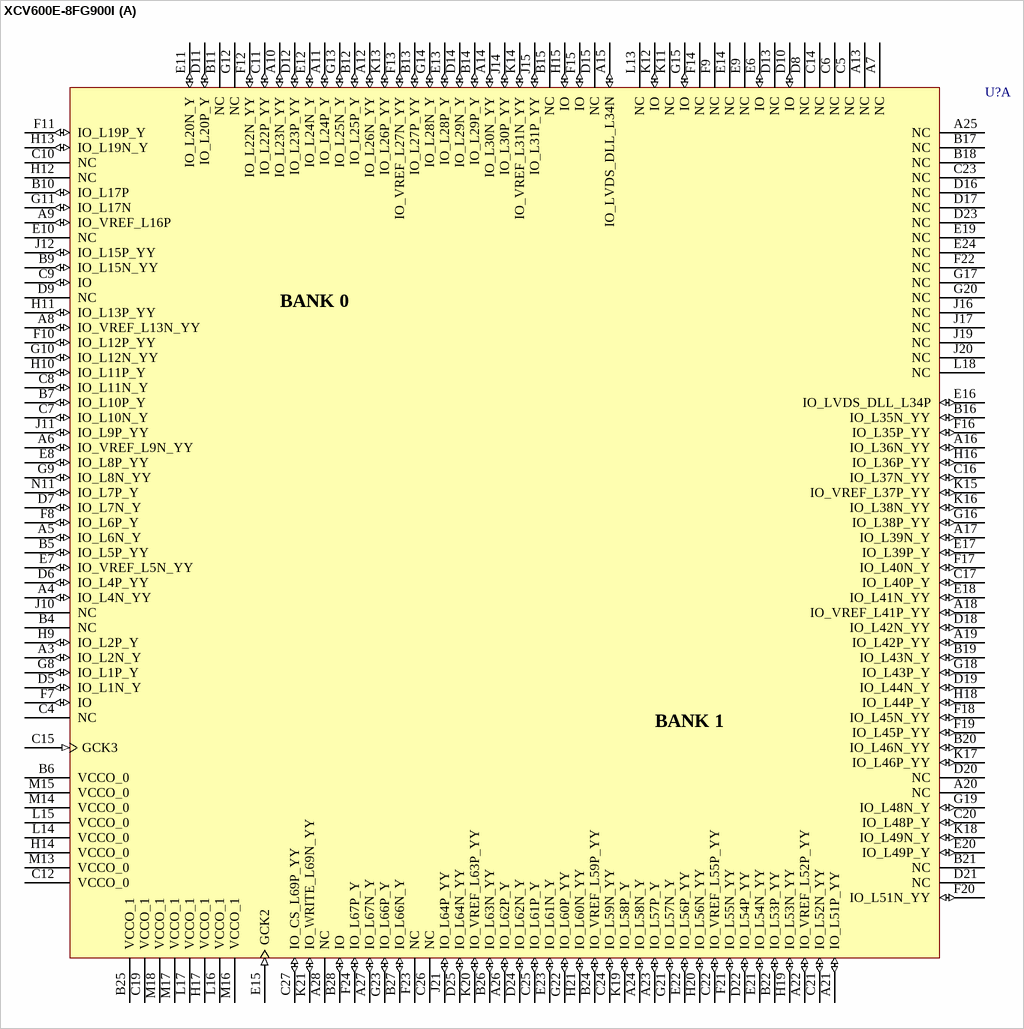
[diagram p274: symbol XCV600E-8FG900I]

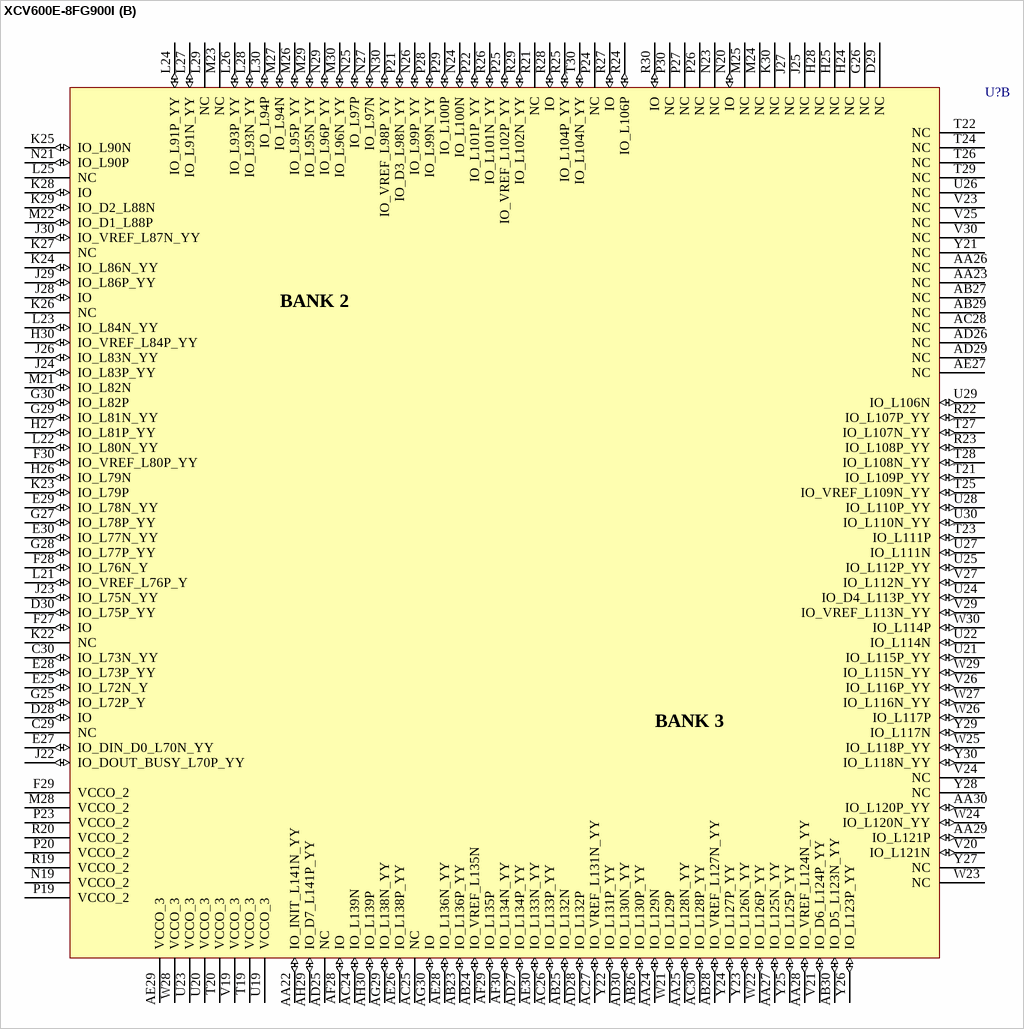
[diagram p275: symbol XCV600E-8FG900I]

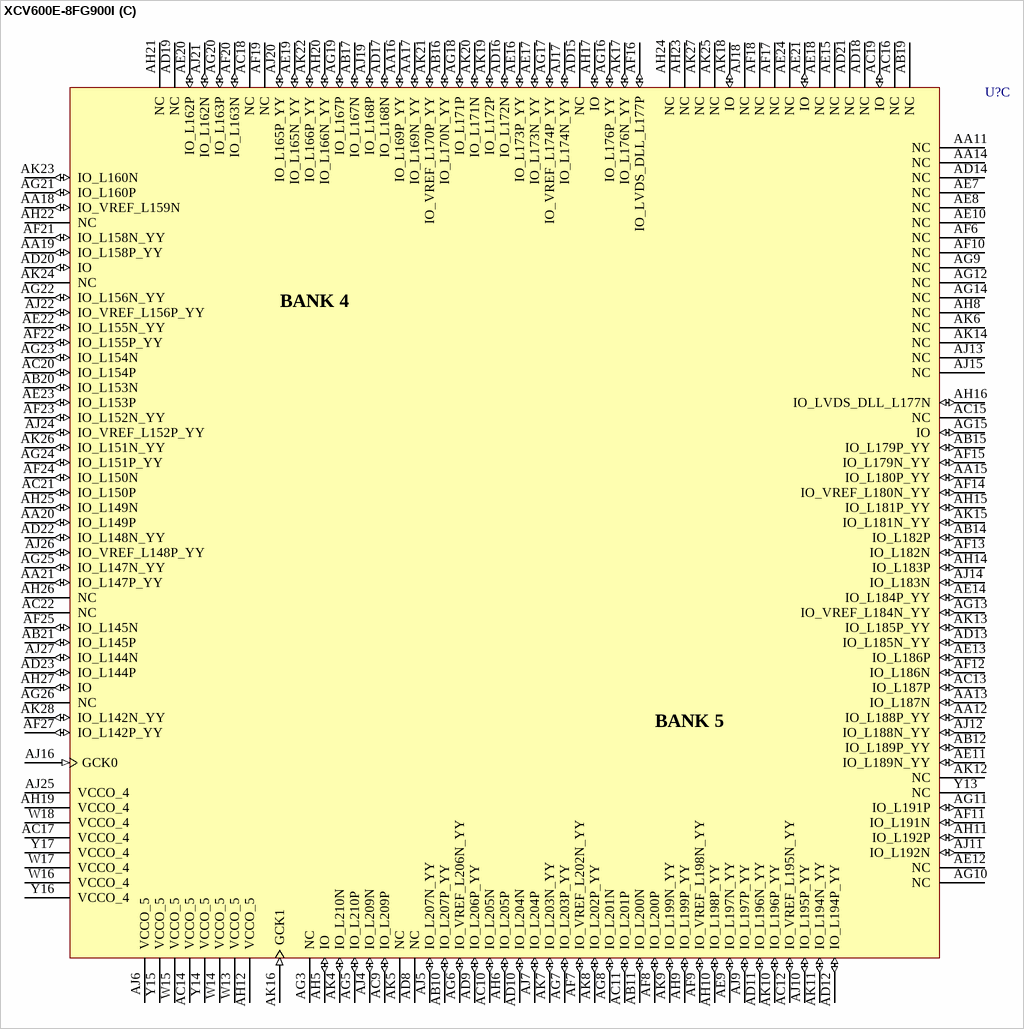
[diagram p276: symbol XCV600E-8FG900I]

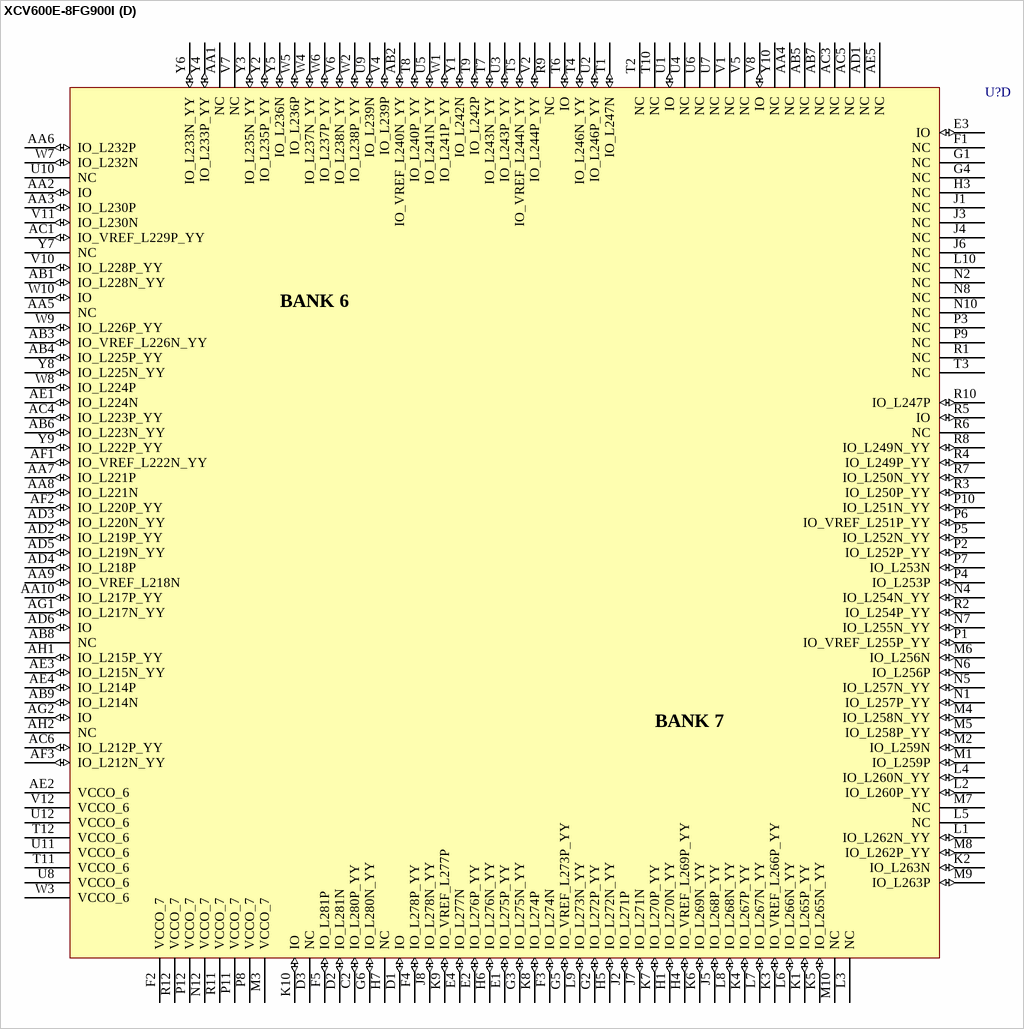
[diagram p277: symbol XCV600E-8FG900I]

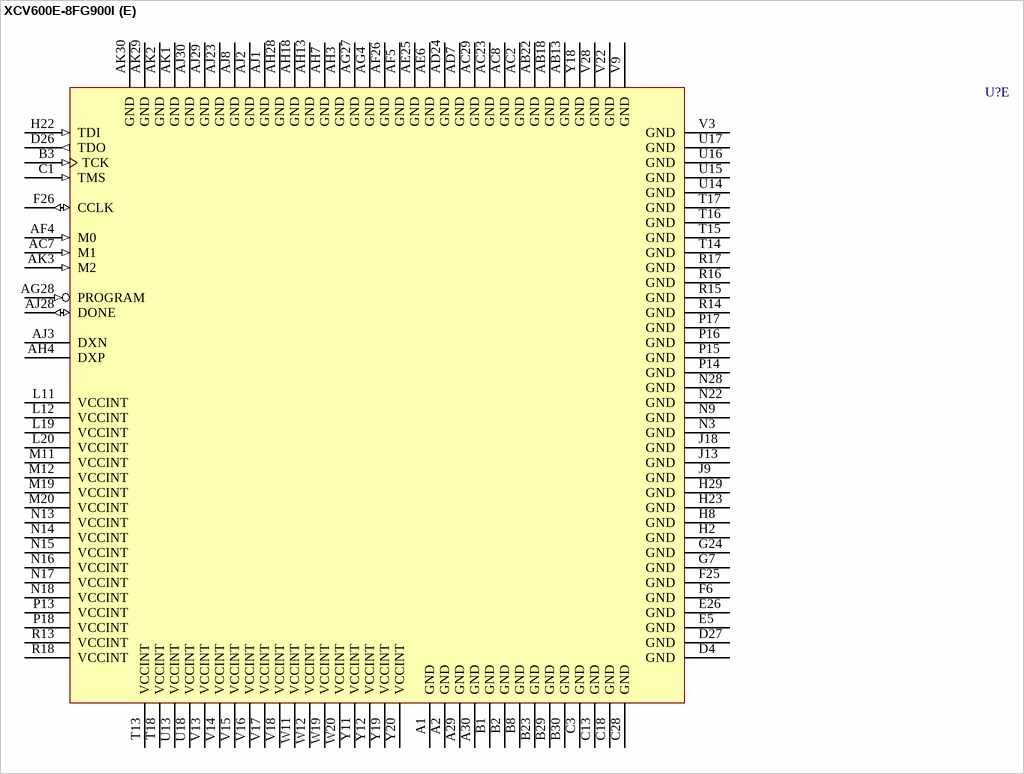
[diagram p278: symbol XCV600E-8FG900I]